# Altium schematic symbol library Analog_Switch.SchLib: 124 symbols (part 1 of 2)
Pins are listed as number, name and electrical type; pins without a type are passive.

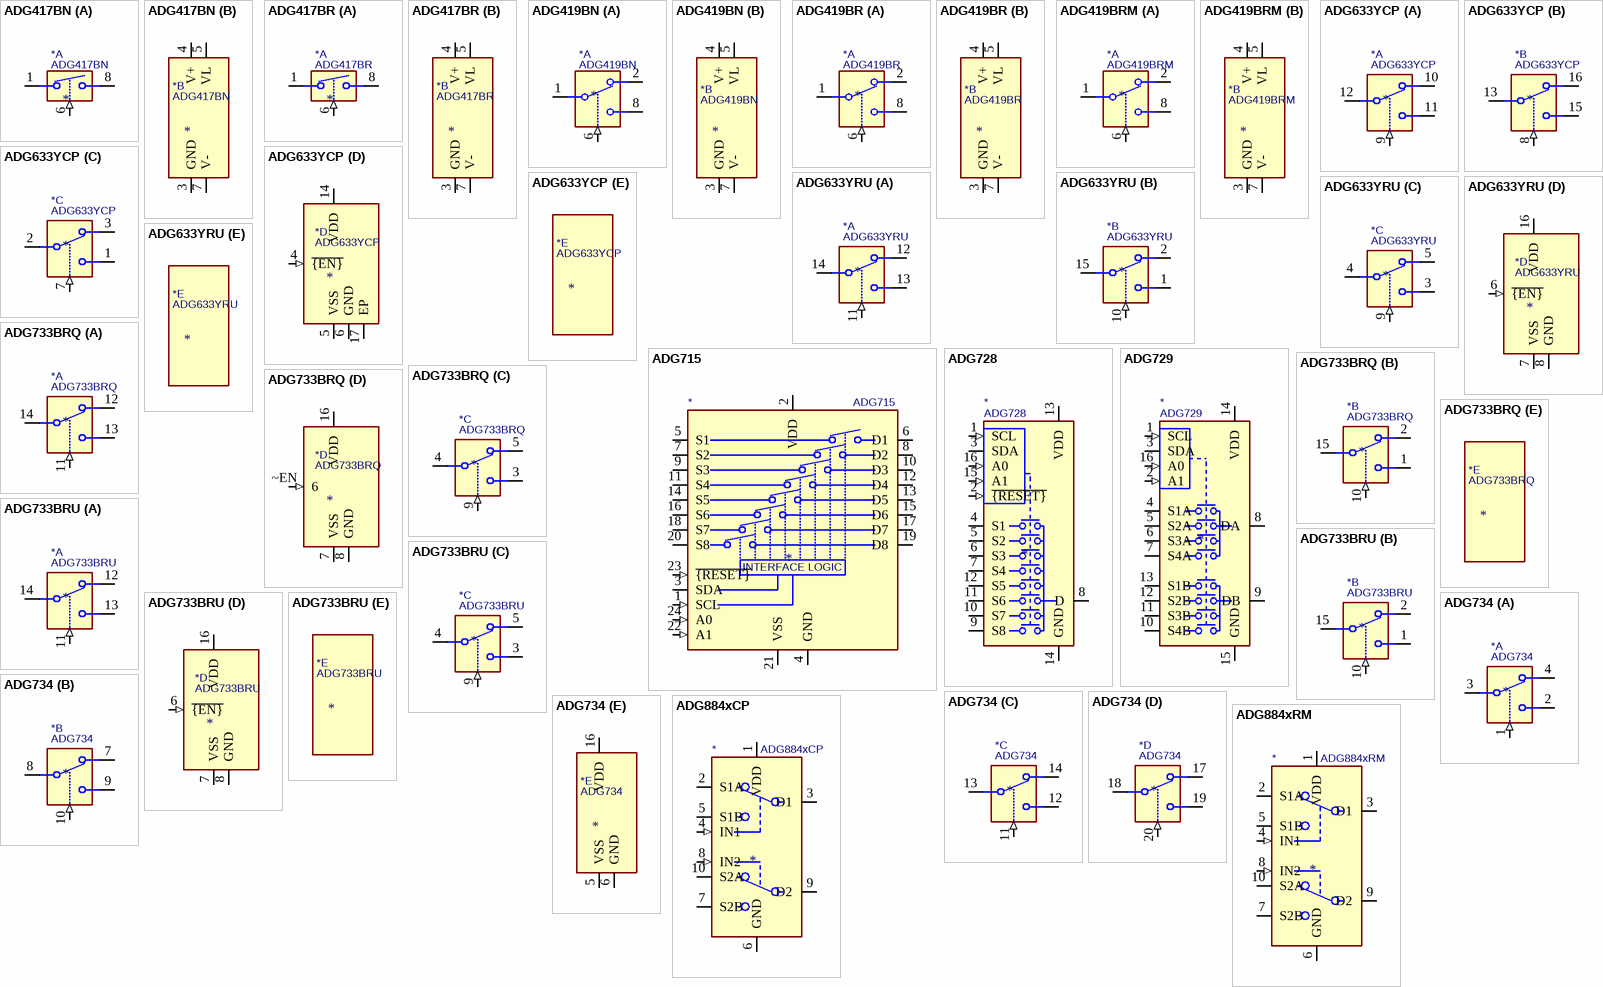
[diagram p0: symbols ADG417BN to ADG884xRM]

## ADG417BN
designator *  value ADG417BN
ki_keywords: CMOS Analog Switch; ki_description: Single SPST Monolithic LC²MOS Analog Switch, normally OFF, 25Ohm Ron, DIP-8; ki_fp_filters: DIP*W7.62mm*; Footprint: Package_DIP:DIP-8_W7.62mm; Supplier: https://www.analog.com/media/en/technical-documentation/data-sheets/ADG417.pdf
footprint DIP-8_W7.62mm
part A pins: 1, 6 (in), 8
part B pins: 2 NC (in) hidden, 3 GND (power), 4 V+ (power), 5 VL (power), 7 V- (power)

## ADG417BR
designator *  value ADG417BR
ki_keywords: CMOS Analog Switch; ki_description: Single SPST Monolithic LC²MOS Analog Switch, normally OFF, 25Ohm Ron, SOIC-8; ki_fp_filters: SOIC*3.9x4.9mm*P1.27mm*; Footprint: Package_SO:SOIC-8_3.9x4.9mm_P1.27mm; Supplier: https://www.analog.com/media/en/technical-documentation/data-sheets/ADG417.pdf
footprint SOIC-8_3.9x4.9mm_P1.27mm
part A pins: 1, 6 (in), 8
part B pins: 2 NC (in) hidden, 3 GND (power), 4 V+ (power), 5 VL (power), 7 V- (power)

## ADG419BN
designator *  value ADG419BN
ki_keywords: CMOS Analog Switch; ki_description: Single SPDT Monolithic LC²MOS Analog Switch, 25Ohm Ron, DIP-8; ki_fp_filters: DIP*W7.62mm*; Footprint: Package_DIP:DIP-8_W7.62mm; Supplier: https://www.analog.com/media/en/technical-documentation/data-sheets/ADG419.pdf
footprint DIP-8_W7.62mm
part A pins: 1, 2, 6 (in), 8
part B pins: 3 GND (power), 4 V+ (power), 5 VL (power), 7 V- (power)

## ADG419BR
designator *  value ADG419BR
ki_keywords: CMOS Analog Switch; ki_description: Single SPDT Monolithic LC²MOS Analog Switch, 25Ohm Ron, SOIC-8; ki_fp_filters: SOIC*3.9x4.9mm*P1.27mm*; Footprint: Package_SO:SOIC-8_3.9x4.9mm_P1.27mm; Supplier: https://www.analog.com/media/en/technical-documentation/data-sheets/ADG419.pdf
footprint SOIC-8_3.9x4.9mm_P1.27mm
part A pins: 1, 2, 6 (in), 8
part B pins: 3 GND (power), 4 V+ (power), 5 VL (power), 7 V- (power)

## ADG419BRM
designator *  value ADG419BRM
ki_keywords: CMOS Analog Switch; ki_description: Single SPDT Monolithic LC²MOS Analog Switch, 25Ohm Ron, MSOP-8; ki_fp_filters: MSOP*3x3mm*P0.65mm*; Footprint: Package_SO:MSOP-8_3x3mm_P0.65mm; Supplier: https://www.analog.com/media/en/technical-documentation/data-sheets/ADG419.pdf
footprint MSOP-8_3x3mm_P0.65mm
part A pins: 1, 2, 6 (in), 8
part B pins: 3 GND (power), 4 V+ (power), 5 VL (power), 7 V- (power)

## ADG633YCP
designator *  value ADG633YCP
ki_keywords: CMOS Analog Switch; ki_description: Triple SPDT CMOS Analog Switch, 52Ohm Ron, LFCSP-16; ki_fp_filters: LFCSP*4x4mm*P0.65mm*EP2.1x2.1mm*; Footprint: Package_CSP:LFCSP-16-1EP_4x4mm_P0.65mm_EP2.1x2.1mm
footprint LFCSP-16-1EP_4x4mm_P0.65mm_EP2.1x2.1mm
part A pins: 9 (in), 10, 11, 12
part B pins: 8 (in), 13, 15, 16
part C pins: 1, 2, 3, 7 (in)
part D pins: 4 ~{{EN}} (in), 5 VSS (power), 6 GND (power), 14 VDD (power), 17 EP (power)

## ADG633YRU
designator *  value ADG633YRU
ki_keywords: CMOS Analog Switch; ki_description: Triple SPDT CMOS Analog Switch, 52Ohm Ron, TSSOP-16; ki_fp_filters: TSSOP*4.4x6.5mm*P0.65mm*; Footprint: Package_SO:TSSOP-20_4.4x6.5mm_P0.65mm; Supplier: https://www.analog.com/media/en/technical-documentation/data-sheets/ADG633.pdf
footprint TSSOP-20_4.4x6.5mm_P0.65mm
part A pins: 11 (in), 12, 13, 14
part B pins: 1, 2, 10 (in), 15
part C pins: 3, 4, 5, 9 (in)
part D pins: 6 ~{{EN}} (in), 7 VSS (power), 8 GND (power), 16 VDD (power)

## ADG715
designator *  value ADG715
ki_keywords: CMOS, Switch, I2C; ki_description: CMOS, Low Voltage, Serially Controlled, Octal SPST Switch, I2C interface, TSSOP-24; ki_fp_filters: TSSOP*4.4x7.8mm*P0.65mm*; Footprint: Package_SO:TSSOP-24_4.4x7.8mm_P0.65mm; Supplier: https://www.analog.com/media/en/technical-documentation/data-sheets/ADG714_715.pdf
footprint TSSOP-24_4.4x7.8mm_P0.65mm
pins: 1 SCL (in), 2 VDD (power), 3 SDA (io), 4 GND (power), 5 S1, 6 D1, 7 S2, 8 D2, 9 S3, 10 D3, 11 S4, 12 D4, 13 D5, 14 S5, 15 D6, 16 S6, 17 D7, 18 S7, 19 D8, 20 S8, 21 VSS (power), 22 A1 (in), 23 ~{{RESET}} (in), 24 A0 (in)
text: INTERFACE LOGIC

## ADG728
designator *  value ADG728
ki_keywords: analog switch selector multiplexer TWI I2C IIC 8-to-1; ki_description: Single 8-to-1 CMOS Low Voltage 2-Wire Serially Controlled, Matrix Switches; ki_fp_filters: TSSOP*4.4x5mm*P0.65mm*; Footprint: Package_SO:TSSOP-16_4.4x5mm_P0.65mm; Supplier: https://www.analog.com/media/en/technical-documentation/data-sheets/ADG728_729.pdf
footprint TSSOP-16_4.4x5mm_P0.65mm
pins: 1 SCL (in), 2 ~{{RESET}} (in), 3 SDA (io), 4 S1 (io), 5 S2 (io), 6 S3 (io), 7 S4 (io), 8 D (io), 9 S8 (io), 10 S7 (io), 11 S6 (io), 12 S5 (io), 13 VDD (power), 14 GND (power), 15 A1 (in), 16 A0 (in)

## ADG729
designator *  value ADG729
ki_keywords: analog switch selector multiplexer TWI I2C IIC 4-to-1; ki_description: Dual 4-to-1 CMOS Low Voltage 2-Wire Serially Controlled, Matrix Switches; ki_fp_filters: TSSOP*4.4x5mm*P0.65mm*; Footprint: Package_SO:TSSOP-16_4.4x5mm_P0.65mm; Supplier: https://www.analog.com/media/en/technical-documentation/data-sheets/ADG728_729.pdf
footprint TSSOP-16_4.4x5mm_P0.65mm
pins: 1 SCL (in), 2 A1 (in), 3 SDA (io), 4 S1A (io), 5 S2A (io), 6 S3A (io), 7 S4A (io), 8 DA (io), 9 DB (io), 10 S4B (io), 11 S3B (io), 12 S2B (io), 13 S1B (io), 14 VDD (power), 15 GND (power), 16 A0 (in)

## ADG733BRQ
designator *  value ADG733BRQ
ki_keywords: CMOS Analog Switch; ki_description: Triple SPDT CMOS Analog Switch, 2.5Ohm Ron, QSOP-16; ki_fp_filters: QSOP*3.9x4.9mm*P0.635mm*; Footprint: Package_SO:QSOP-16_3.9x4.9mm_P0.635mm; Supplier: https://www.analog.com/media/en/technical-documentation/data-sheets/ADG733_734.pdf
footprint QSOP-16_3.9x4.9mm_P0.635mm
part A pins: 11 (in), 12, 13, 14
part B pins: 1, 2, 10 (in), 15
part C pins: 3, 4, 5, 9 (in)
part D pins: 7 VSS (power), 8 GND (power), 16 VDD (power), ~EN 6 (in)

## ADG733BRU
designator *  value ADG733BRU
ki_keywords: CMOS Analog Switch; ki_description: Triple SPDT CMOS Analog Switch, 2.5Ohm Ron, TSSOP-16; ki_fp_filters: TSSOP*4.4x6.5mm*P0.65mm*; Footprint: Package_SO:TSSOP-20_4.4x6.5mm_P0.65mm; Supplier: https://www.analog.com/media/en/technical-documentation/data-sheets/ADG733_734.pdf
footprint TSSOP-20_4.4x6.5mm_P0.65mm
part A pins: 11 (in), 12, 13, 14
part B pins: 1, 2, 10 (in), 15
part C pins: 3, 4, 5, 9 (in)
part D pins: 6 ~{{EN}} (in), 7 VSS (power), 8 GND (power), 16 VDD (power)

## ADG734
designator *  value ADG734
ki_keywords: CMOS Analog Switch; ki_description: Quad SPDT CMOS Analog Switch, 2.5Ohm Ron, TSSOP-20; ki_fp_filters: TSSOP*4.4x6.5mm*P0.65mm*; Footprint: Package_SO:TSSOP-20_4.4x6.5mm_P0.65mm; Supplier: https://www.analog.com/media/en/technical-documentation/data-sheets/ADG733_734.pdf
footprint TSSOP-20_4.4x6.5mm_P0.65mm
part A pins: 1 (in), 2, 3, 4
part B pins: 7, 8, 9, 10 (in)
part C pins: 11 (in), 12, 13, 14
part D pins: 17, 18, 19, 20 (in)
part E pins: 5 VSS (power), 6 GND (power), 15 NC (in) hidden, 16 VDD (power)

## ADG884xCP
designator *  value ADG884xCP
ki_keywords: analog switch; ki_description: 0.5Ω CMOS, Dual 2:1 MUX/SPDT Audio Switch, LFCSP-WD-10; ki_fp_filters: LFCSP*1EP*3x3mm*P0.5mm*; Footprint: Package_CSP:LFCSP-WD-10-1EP_3x3mm_P0.5mm_EP1.64x2.38mm; Supplier: https://www.analog.com/media/en/technical-documentation/data-sheets/ADG884.pdf
footprint LFCSP-WD-10-1EP_3x3mm_P0.5mm_EP1.64x2.38mm
pins: 1 VDD (power), 2 S1A (io), 3 D1 (io), 4 IN1 (in), 5 S1B (io), 6 GND (power), 7 S2B (io), 8 IN2 (in), 9 D2 (io), 10 S2A (io), 11 GND hidden

## ADG884xRM
designator *  value ADG884xRM
ki_keywords: analog switch; ki_description: 0.5Ω CMOS, Dual 2:1 MUX/SPDT Audio Switch, MSOP-10; ki_fp_filters: MSOP*3x3mm*P0.5mm*; Footprint: Package_SO:MSOP-10_3x3mm_P0.5mm; Supplier: https://www.analog.com/media/en/technical-documentation/data-sheets/ADG884.pdf
footprint MSOP-10_3x3mm_P0.5mm
pins: 1 VDD (power), 2 S1A (io), 3 D1 (io), 4 IN1 (in), 5 S1B (io), 6 GND (power), 7 S2B (io), 8 IN2 (in), 9 D2 (io), 10 S2A (io)

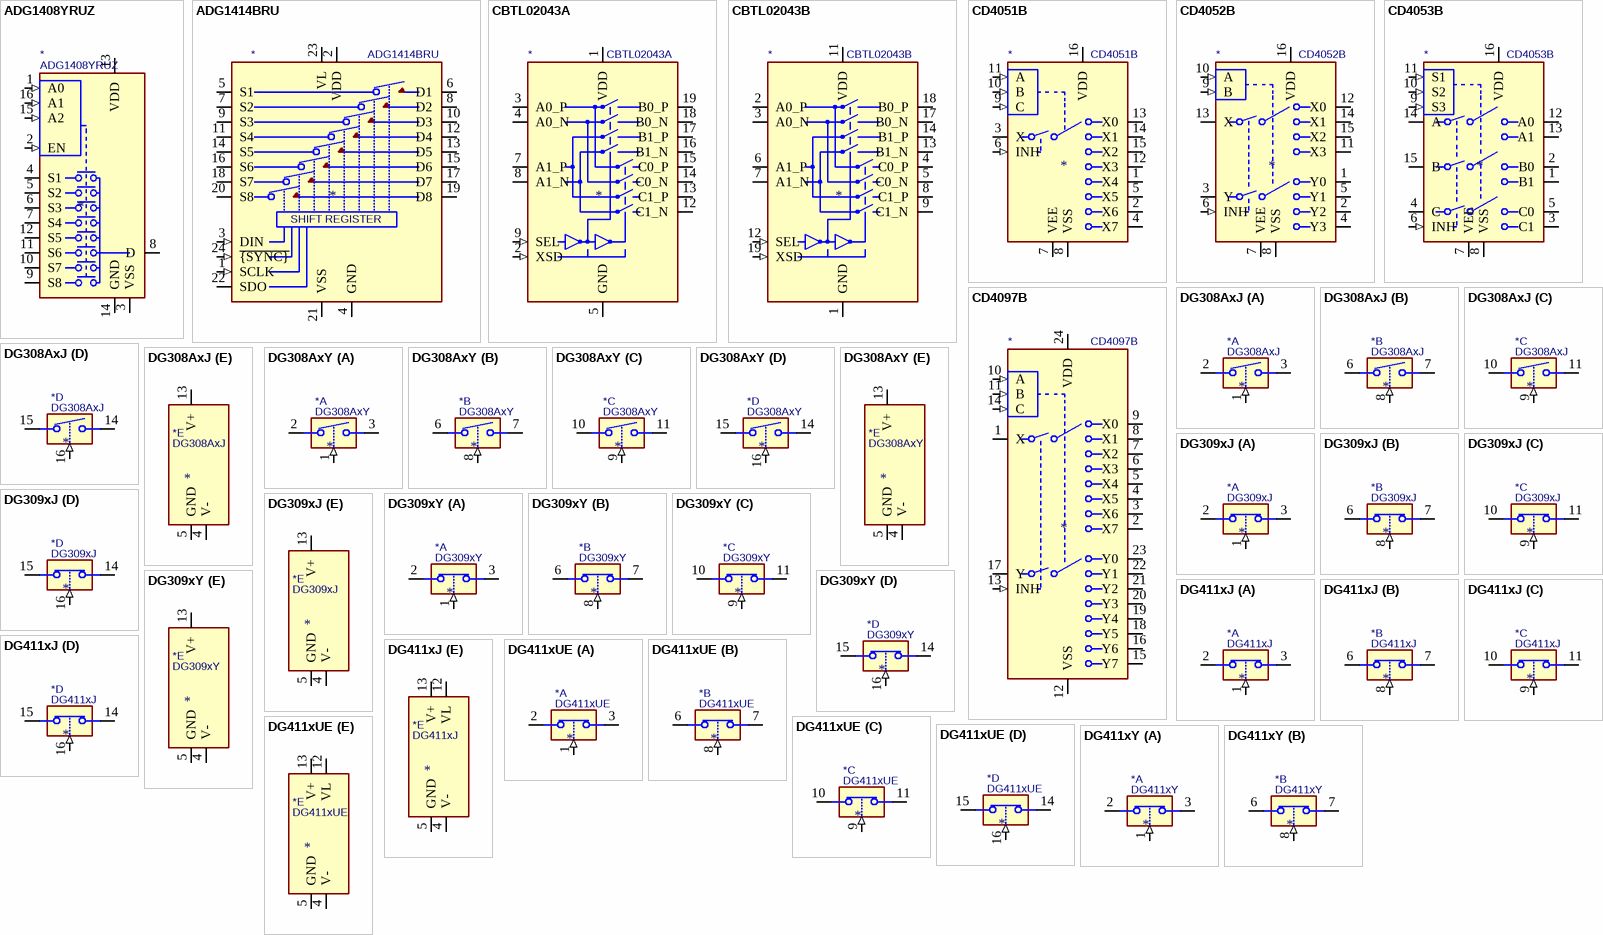
[diagram p1: symbols ADG1408YRUZ to DG411xY]

## ADG1408YRUZ
designator *  value ADG1408YRUZ
ki_keywords: analog switch  multiplexer SP8T; ki_description: 8-channel iCMOS analog multiplexer, 4.7 Ohm Ron, 60 MHz, TSSOP-16; ki_fp_filters: TSSOP*4.4x5mm*P0.65mm*; Footprint: Package_SO:TSSOP-16_4.4x5mm_P0.65mm; Supplier: https://www.analog.com/media/en/technical-documentation/data-sheets/ADG1408_1409.pdf
footprint TSSOP-16_4.4x5mm_P0.65mm
pins: 1 A0 (in), 2 EN (in), 3 VSS (power), 4 S1 (io), 5 S2 (io), 6 S3 (io), 7 S4 (io), 8 D (io), 9 S8 (io), 10 S7 (io), 11 S6 (io), 12 S5 (io), 13 VDD (power), 14 GND (power), 15 A2 (in), 16 A1 (in)

## ADG1414BRU
designator *  value ADG1414BRU
ki_keywords: SPI SPST Analog Switches; ki_description: ±15V, +12V, ±5V, 9.5 Ohm on resistance, iCMOS Serially-Controlled Octal SPST Switches, TSSOP-24; ki_fp_filters: TSSOP*4.4x7.8mm*P0.65mm*; Footprint: Package_SO:TSSOP-24_4.4x7.8mm_P0.65mm; Supplier: https://www.analog.com/media/en/technical-documentation/data-sheets/ADG1414.pdf
footprint TSSOP-24_4.4x7.8mm_P0.65mm
pins: 1 SCLK (in), 2 VDD (power), 3 DIN (in), 4 GND (power), 5 S1, 6 D1, 7 S2, 8 D2, 9 S3, 10 D3, 11 S4, 12 D4, 13 D5, 14 S5, 15 D6, 16 S6, 17 D7, 18 S7, 19 D8, 20 S8, 21 VSS (power), 22 SDO (oc), 23 VL (power), 24 ~{{SYNC}} (in)
text: SHIFT REGISTER

## CBTL02043A
designator *  value CBTL02043A
ki_keywords: Multiplexer Demultiplexer Switch Hi-Speed; ki_description: 3.3 V, 2 differential channel, 2:1 MUX/deMUX switch, 10 Gbps, WQFN-20; ki_fp_filters: WQFN*1EP*2.5x4.5mm*P0.5mm*; Footprint: Package_DFN_QFN:WQFN-20-1EP_2.5x4.5mm_P0.5mm_EP1x2.9mm; Supplier: https://www.nxp.com/docs/en/data-sheet/CBTL02043A_CBTL02043B.pdf
footprint WQFN-20-1EP_2.5x4.5mm_P0.5mm_EP1x2.9mm
pins: 1 VDD (power), 2 XSD (in), 3 A0_P, 4 A0_N, 5 GND (power), 6 VDD hidden, 7 A1_P, 8 A1_N, 9 SEL (in), 10 VDD hidden, 11 GND hidden, 12 C1_N, 13 C1_P, 14 C0_N, 15 C0_P, 16 B1_N, 17 B1_P, 18 B0_N, 19 B0_P, 20 GND hidden, 21 GND hidden

## CBTL02043B
designator *  value CBTL02043B
ki_keywords: Multiplexer Demultiplexer Switch Hi-Speed; ki_description: 3.3 V, 2 differential channel, 2:1 MUX/deMUX switch, 10 Gbps, WQFN-20; ki_fp_filters: WQFN*1EP*2.5x4.5mm*P0.5mm*; Footprint: Package_DFN_QFN:WQFN-20-1EP_2.5x4.5mm_P0.5mm_EP1x2.9mm; Supplier: https://www.nxp.com/docs/en/data-sheet/CBTL02043A_CBTL02043B.pdf
footprint WQFN-20-1EP_2.5x4.5mm_P0.5mm_EP1x2.9mm
pins: 1 GND (power), 2 A0_P, 3 A0_N, 4 C0_P, 5 C0_N, 6 A1_P, 7 A1_N, 8 C1_P, 9 C1_N, 10 GND hidden, 11 VDD (power), 12 SEL (in), 13 B1_N, 14 B1_P, 15 GND hidden, 16 VDD hidden, 17 B0_N, 18 B0_P, 19 XSD (in), 20 VDD hidden, 21 GND hidden

## CD4051B
designator *  value CD4051B
ki_keywords: analog switch selector multiplexer; ki_description: CMOS single 8-channel analog multiplexer demultiplexer, TSSOP-16/DIP-16/SOIC-16; ki_fp_filters: TSSOP*4.4x5mm*P0.65mm* DIP*W7.62* SOIC*3.9x9.9mm*P1.27mm* SO*5.3x10.2mm*P1.27mm*; Supplier: http://www.ti.com/lit/ds/symlink/cd4052b.pdf
pins: 1 X4 (io), 2 X6 (io), 3 X (io), 4 X7 (io), 5 X5 (io), 6 INH (in), 7 VEE (power), 8 VSS (power), 9 C (in), 10 B (in), 11 A (in), 12 X3 (io), 13 X0 (io), 14 X1 (io), 15 X2 (io), 16 VDD (power)

## CD4052B
designator *  value CD4052B
ki_keywords: analog switch selector multiplexer; ki_description: CMOS double 4-channel analog multiplexer/demultiplexer, TSSOP-16/DIP-16/SOIC-16; ki_fp_filters: TSSOP*4.4x5mm*P0.65mm* DIP*W7.62* SOIC*3.9x9.9mm*P1.27mm* SO*5.3x10.2mm*P1.27mm*; Supplier: http://www.ti.com/lit/ds/symlink/cd4052b.pdf
pins: 1 Y0 (io), 2 Y2 (io), 3 Y (io), 4 Y3 (io), 5 Y1 (io), 6 INH (in), 7 VEE (power), 8 VSS (power), 9 B (in), 10 A (in), 11 X3 (io), 12 X0 (io), 13 X (io), 14 X1 (io), 15 X2 (io), 16 VDD (power)

## CD4053B
designator *  value CD4053B
ki_keywords: analog switch selector multiplexer; ki_description: CMOS triple 2-channel analog multiplexer/demultiplexer, TSSOP-16/DIP-16/SOIC-16; ki_fp_filters: TSSOP*4.4x5mm*P0.65mm* DIP*W7.62* SOIC*3.9x9.9mm*P1.27mm* SO*5.3x10.2mm*P1.27mm*; Supplier: http://www.ti.com/lit/ds/symlink/cd4052b.pdf
pins: 1 B1 (io), 2 B0 (io), 3 C1 (io), 4 C (io), 5 C0 (io), 6 INH (in), 7 VEE (power), 8 VSS (power), 9 S3 (in), 10 S2 (in), 11 S1 (in), 12 A0 (io), 13 A1 (io), 14 A (io), 15 B (io), 16 VDD (power)

## CD4097B
designator *  value CD4097B
ki_keywords: analog switch selector multiplexer; ki_description: CMOS double 8-channel analog multiplexer/demultiplexer, TSSOP-24/DIP-24/SOIC-24; ki_fp_filters: TSSOP*4.4x7.8mm*P0.65mm* SOIC*7.5*15.4*1.27mm* SO*5.3x15.0mm*P1.27mm* DIP*15.24mm*; Supplier: http://www.ti.com/lit/ds/symlink/cd4097b.pdf
pins: 1 X (io), 2 X7 (io), 3 X6 (io), 4 X5 (io), 5 X4 (io), 6 X3 (io), 7 X2 (io), 8 X1 (io), 9 X0 (io), 10 A (in), 11 B (in), 12 VSS (power), 13 INH (in), 14 C (in), 15 Y7 (io), 16 Y6 (io), 17 Y (io), 18 Y5 (io), 19 Y4 (io), 20 Y3 (io), 21 Y2 (io), 22 Y1 (io), 23 Y0 (io), 24 VDD (power)

## DG308AxJ
designator *  value DG308AxJ
ki_keywords: CMOS Analog Switch; ki_description: Quad SPST Analog Switches, normally OFF, 60Ohm Ron, DIP-16; ki_fp_filters: DIP*W7.62mm*; Footprint: Package_DIP:DIP-16_W7.62mm; Supplier: http://pdf.datasheetcatalog.com/datasheets/70/494502_DS.pdf
footprint DIP-16_W7.62mm
part A pins: 1 (in), 2, 3
part B pins: 6, 7, 8 (in)
part C pins: 9 (in), 10, 11
part D pins: 14, 15, 16 (in)
part E pins: 4 V- (power), 5 GND (power), 12 NC (in) hidden, 13 V+ (power)

## DG308AxY
designator *  value DG308AxY
ki_keywords: CMOS Analog Switch; ki_description: Quad SPST Analog Switches, normally OFF, 60Ohm Ron, SOIC-16; ki_fp_filters: SOIC*3.9x9.9mm*P1.27mm*; Footprint: Package_SO:SOIC-16_3.9x9.9mm_P1.27mm; Supplier: http://pdf.datasheetcatalog.com/datasheets/70/494502_DS.pdf
footprint SOIC-16_3.9x9.9mm_P1.27mm
part A pins: 1 (in), 2, 3
part B pins: 6, 7, 8 (in)
part C pins: 9 (in), 10, 11
part D pins: 14, 15, 16 (in)
part E pins: 4 V- (power), 5 GND (power), 12 NC (in) hidden, 13 V+ (power)

## DG309xJ
designator *  value DG309xJ
ki_keywords: CMOS Analog Switch; ki_description: Quad SPST Analog Switches, normally ON, 60Ohm Ron, DIP-16; ki_fp_filters: DIP*W7.62mm*; Footprint: Package_DIP:DIP-16_W7.62mm; Supplier: http://pdf.datasheetcatalog.com/datasheets/70/494502_DS.pdf
footprint DIP-16_W7.62mm
part A pins: 1 (in), 2, 3
part B pins: 6, 7, 8 (in)
part C pins: 9 (in), 10, 11
part D pins: 14, 15, 16 (in)
part E pins: 4 V- (power), 5 GND (power), 12 NC (in) hidden, 13 V+ (power)

## DG309xY
designator *  value DG309xY
ki_keywords: CMOS Analog Switch; ki_description: Quad SPST Analog Switches, normally ON, 60Ohm Ron, SOIC-16; ki_fp_filters: SOIC*3.9x9.9mm*P1.27mm*; Footprint: Package_SO:SOIC-16_3.9x9.9mm_P1.27mm; Supplier: http://pdf.datasheetcatalog.com/datasheets/70/494502_DS.pdf
footprint SOIC-16_3.9x9.9mm_P1.27mm
part A pins: 1 (in), 2, 3
part B pins: 6, 7, 8 (in)
part C pins: 9 (in), 10, 11
part D pins: 14, 15, 16 (in)
part E pins: 4 V- (power), 5 GND (power), 12 NC (in) hidden, 13 V+ (power)

## DG411xJ
designator *  value DG411xJ
ki_keywords: CMOS Analog Switch; ki_description: Quad SPST Monolithic CMOS Analog Switches, normally ON, 17Ohm Ron, DIP-16; ki_fp_filters: DIP*W7.62mm*; Footprint: Package_DIP:DIP-16_W7.62mm; Supplier: https://datasheets.maximintegrated.com/en/ds/DG411-DG413.pdf
footprint DIP-16_W7.62mm
part A pins: 1 (in), 2, 3
part B pins: 6, 7, 8 (in)
part C pins: 9 (in), 10, 11
part D pins: 14, 15, 16 (in)
part E pins: 4 V- (power), 5 GND (power), 12 VL (power), 13 V+ (power)

## DG411xUE
designator *  value DG411xUE
ki_keywords: CMOS Analog Switch; ki_description: Quad SPST Monolithic CMOS Analog Switches, normally ON, 17Ohm Ron, TSSOP-16; ki_fp_filters: TSSOP*4.4x5mm*P0.65mm*; Footprint: Package_SO:TSSOP-16_4.4x5mm_P0.65mm; Supplier: https://datasheets.maximintegrated.com/en/ds/DG411-DG413.pdf
footprint TSSOP-16_4.4x5mm_P0.65mm
part A pins: 1 (in), 2, 3
part B pins: 6, 7, 8 (in)
part C pins: 9 (in), 10, 11
part D pins: 14, 15, 16 (in)
part E pins: 4 V- (power), 5 GND (power), 12 VL (power), 13 V+ (power)

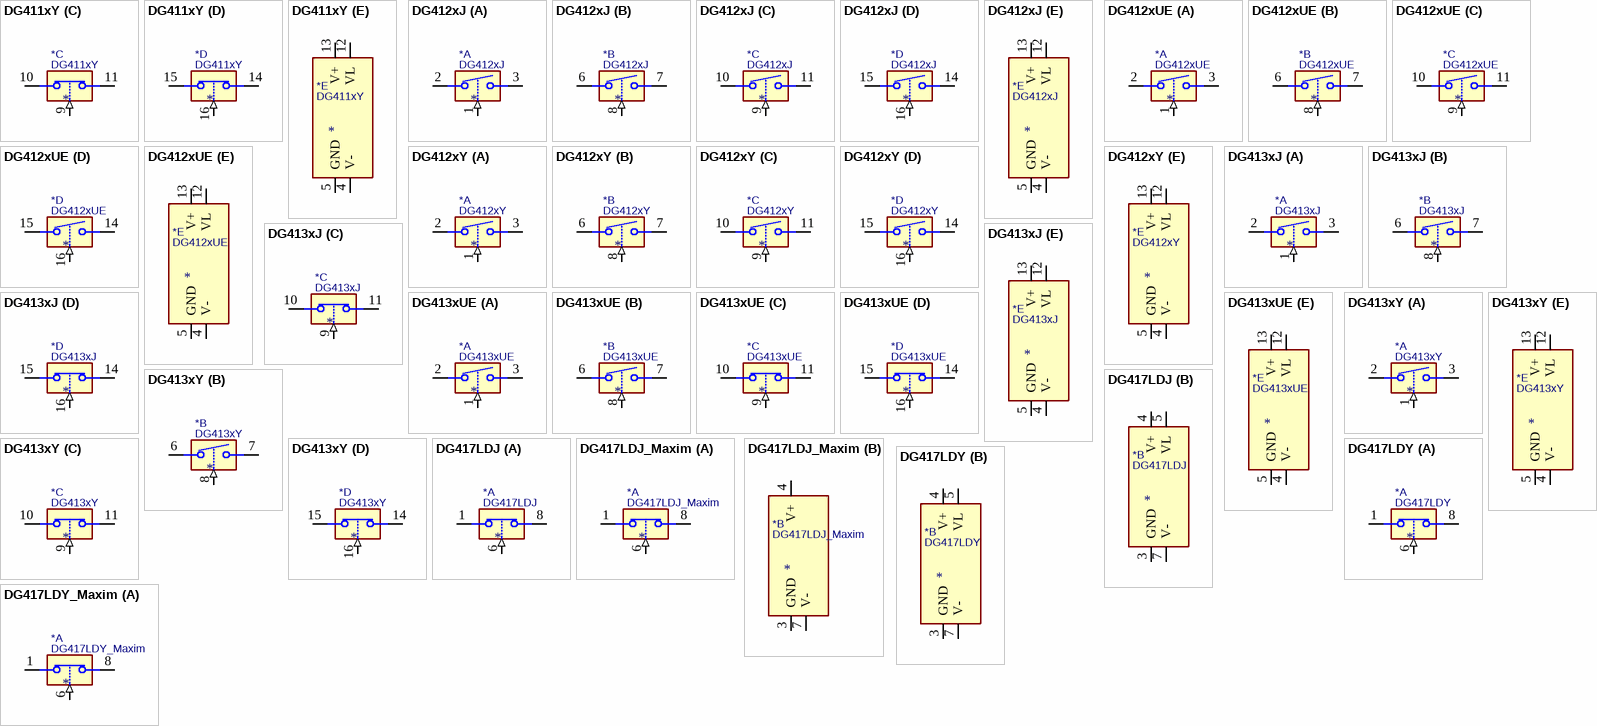
[diagram p2: symbols DG411xY to DG417LDY_Maxim]

## DG411xY
designator *  value DG411xY
ki_keywords: CMOS Analog Switch; ki_description: Quad SPST Monolithic CMOS Analog Switches, normally ON, 17Ohm Ron, SOIC-16; ki_fp_filters: SOIC*3.9x9.9mm*P1.27mm*; Footprint: Package_SO:SOIC-16_3.9x9.9mm_P1.27mm; Supplier: https://datasheets.maximintegrated.com/en/ds/DG411-DG413.pdf
footprint SOIC-16_3.9x9.9mm_P1.27mm
part A pins: 1 (in), 2, 3
part B pins: 6, 7, 8 (in)
part C pins: 9 (in), 10, 11
part D pins: 14, 15, 16 (in)
part E pins: 4 V- (power), 5 GND (power), 12 VL (power), 13 V+ (power)

## DG412xJ
designator *  value DG412xJ
ki_keywords: CMOS Analog Switch; ki_description: Quad SPST Monolithic CMOS Analog Switches, normally OFF, 17Ohm Ron, DIP-16; ki_fp_filters: DIP*W7.62mm*; Footprint: Package_DIP:DIP-16_W7.62mm; Supplier: https://datasheets.maximintegrated.com/en/ds/DG411-DG413.pdf
footprint DIP-16_W7.62mm
part A pins: 1 (in), 2, 3
part B pins: 6, 7, 8 (in)
part C pins: 9 (in), 10, 11
part D pins: 14, 15, 16 (in)
part E pins: 4 V- (power), 5 GND (power), 12 VL (power), 13 V+ (power)

## DG412xUE
designator *  value DG412xUE
ki_keywords: CMOS Analog Switch; ki_description: Quad SPST Monolithic CMOS Analog Switches, normally OFF, 17Ohm Ron, TSSOP-16; ki_fp_filters: TSSOP*4.4x5mm*P0.65mm*; Footprint: Package_SO:TSSOP-16_4.4x5mm_P0.65mm; Supplier: https://datasheets.maximintegrated.com/en/ds/DG411-DG413.pdf
footprint TSSOP-16_4.4x5mm_P0.65mm
part A pins: 1 (in), 2, 3
part B pins: 6, 7, 8 (in)
part C pins: 9 (in), 10, 11
part D pins: 14, 15, 16 (in)
part E pins: 4 V- (power), 5 GND (power), 12 VL (power), 13 V+ (power)

## DG412xY
designator *  value DG412xY
ki_keywords: CMOS Analog Switch; ki_description: Quad SPST Monolithic CMOS Analog Switches, normally OFF, 17Ohm Ron, SOIC-16; ki_fp_filters: SOIC*3.9x9.9mm*P1.27mm*; Footprint: Package_SO:SOIC-16_3.9x9.9mm_P1.27mm; Supplier: https://datasheets.maximintegrated.com/en/ds/DG411-DG413.pdf
footprint SOIC-16_3.9x9.9mm_P1.27mm
part A pins: 1 (in), 2, 3
part B pins: 6, 7, 8 (in)
part C pins: 9 (in), 10, 11
part D pins: 14, 15, 16 (in)
part E pins: 4 V- (power), 5 GND (power), 12 VL (power), 13 V+ (power)

## DG413xJ
designator *  value DG413xJ
ki_keywords: CMOS Analog Switch; ki_description: Quad SPST Monolithic CMOS Analog Switches, normally 2xON + 2xOFF, 17Ohm Ron, DIP-16; ki_fp_filters: DIP*W7.62mm*; Footprint: Package_DIP:DIP-16_W7.62mm; Supplier: https://datasheets.maximintegrated.com/en/ds/DG411-DG413.pdf
footprint DIP-16_W7.62mm
part A pins: 1 (in), 2, 3
part B pins: 6, 7, 8 (in)
part C pins: 9 (in), 10, 11
part D pins: 14, 15, 16 (in)
part E pins: 4 V- (power), 5 GND (power), 12 VL (power), 13 V+ (power)

## DG413xUE
designator *  value DG413xUE
ki_keywords: CMOS Analog Switch; ki_description: Quad SPST Monolithic CMOS Analog Switches, normally 2xON + 2xOFF, 17Ohm Ron, TSSOP-16; ki_fp_filters: TSSOP*4.4x5mm*P0.65mm*; Footprint: Package_SO:TSSOP-16_4.4x5mm_P0.65mm; Supplier: https://datasheets.maximintegrated.com/en/ds/DG411-DG413.pdf
footprint TSSOP-16_4.4x5mm_P0.65mm
part A pins: 1 (in), 2, 3
part B pins: 6, 7, 8 (in)
part C pins: 9 (in), 10, 11
part D pins: 14, 15, 16 (in)
part E pins: 4 V- (power), 5 GND (power), 12 VL (power), 13 V+ (power)

## DG413xY
designator *  value DG413xY
ki_keywords: CMOS Analog Switch; ki_description: Quad SPST Monolithic CMOS Analog Switches, normally 2xON + 2xOFF, 17Ohm Ron, SOIC-16; ki_fp_filters: SOIC*3.9x9.9mm*P1.27mm*; Footprint: Package_SO:SOIC-16_3.9x9.9mm_P1.27mm; Supplier: https://datasheets.maximintegrated.com/en/ds/DG411-DG413.pdf
footprint SOIC-16_3.9x9.9mm_P1.27mm
part A pins: 1 (in), 2, 3
part B pins: 6, 7, 8 (in)
part C pins: 9 (in), 10, 11
part D pins: 14, 15, 16 (in)
part E pins: 4 V- (power), 5 GND (power), 12 VL (power), 13 V+ (power)

## DG417LDJ
designator *  value DG417LDJ
ki_keywords: CMOS Analog Switch; ki_description: Single SPST 3V Logic Compatible CMOS Analog Switch, normally ON, 35Ohm Ron, with Vlogic, DIP-8; ki_fp_filters: DIP*W7.62mm*; Footprint: Package_DIP:DIP-8_W7.62mm; Supplier: https://datasheets.maximintegrated.com/en/ds/DG417L-DG419L.pdf
footprint DIP-8_W7.62mm
part A pins: 1, 6 (in), 8
part B pins: 2 NC (in) hidden, 3 GND (power), 4 V+ (power), 5 VL (power), 7 V- (power)

## DG417LDJ_Maxim
designator *  value DG417LDJ_Maxim
ki_keywords: CMOS Analog Switch; ki_description: Single SPST 3V Logic Compatible CMOS Analog Switch, normally ON, 35Ohm Ron, Maxim-variant without Vlogic, DIP-8; ki_fp_filters: DIP*W7.62mm*; Footprint: Package_DIP:DIP-8_W7.62mm; Supplier: https://datasheets.maximintegrated.com/en/ds/DG417L-DG419L.pdf
footprint DIP-8_W7.62mm
part A pins: 1, 6 (in), 8
part B pins: 2 NC (in) hidden, 3 GND (power), 4 V+ (power), 5 NC (in) hidden, 7 V- (power)

## DG417LDY
designator *  value DG417LDY
ki_keywords: CMOS Analog Switch; ki_description: Single SPST 3V Logic Compatible CMOS Analog Switch, normally ON, 20Ohm Ron, with Vlogic, SOIC-8; ki_fp_filters: SOIC*3.9x4.9mm*P1.27mm*; Footprint: Package_SO:SOIC-8_3.9x4.9mm_P1.27mm; Supplier: https://datasheets.maximintegrated.com/en/ds/DG417-DG419.pdf
footprint SOIC-8_3.9x4.9mm_P1.27mm
part A pins: 1, 6 (in), 8
part B pins: 2 NC (in) hidden, 3 GND (power), 4 V+ (power), 5 VL (power), 7 V- (power)

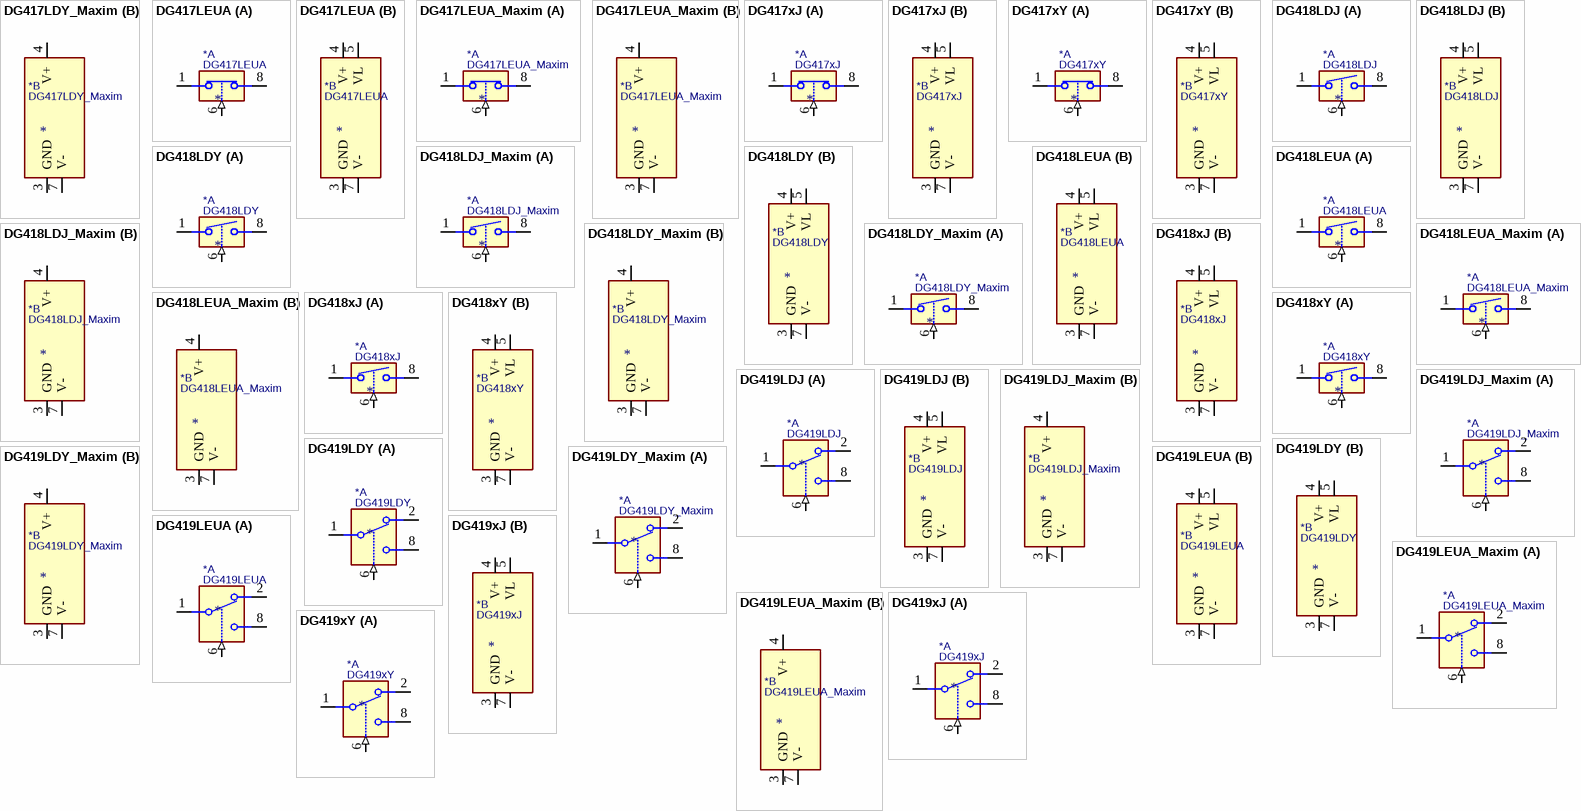
[diagram p3: symbols DG417LDY_Maxim to DG419xY]

## DG417LDY_Maxim
designator *  value DG417LDY_Maxim
ki_keywords: CMOS Analog Switch; ki_description: Single SPST 3V Logic Compatible CMOS Analog Switch, normally ON, 20Ohm Ron, Maxim-variant without Vlogic, SOIC-8; ki_fp_filters: SOIC*3.9x4.9mm*P1.27mm*; Footprint: Package_SO:SOIC-8_3.9x4.9mm_P1.27mm; Supplier: https://datasheets.maximintegrated.com/en/ds/DG417-DG419.pdf
footprint SOIC-8_3.9x4.9mm_P1.27mm
part A pins: 1, 6 (in), 8
part B pins: 2 NC (in) hidden, 3 GND (power), 4 V+ (power), 5 NC (in) hidden, 7 V- (power)

## DG417LEUA
designator *  value DG417LEUA
ki_keywords: CMOS Analog Switch; ki_description: Single SPST 3V Logic Compatible CMOS Analog Switch, normally ON, 20Ohm Ron, with Vlogic, MSOP-8; ki_fp_filters: MSOP*3x3mm*P0.65mm*; Footprint: Package_SO:MSOP-8_3x3mm_P0.65mm; Supplier: https://datasheets.maximintegrated.com/en/ds/DG417-DG419.pdf
footprint MSOP-8_3x3mm_P0.65mm
part A pins: 1, 6 (in), 8
part B pins: 2 NC (in) hidden, 3 GND (power), 4 V+ (power), 5 VL (power), 7 V- (power)

## DG417LEUA_Maxim
designator *  value DG417LEUA_Maxim
ki_keywords: CMOS Analog Switch; ki_description: Single SPST 3V Logic Compatible CMOS Analog Switch, normally ON, 20Ohm Ron, Maxim-variant without Vlogic, MSOP-8; ki_fp_filters: MSOP*3x3mm*P0.65mm*; Footprint: Package_SO:MSOP-8_3x3mm_P0.65mm; Supplier: https://datasheets.maximintegrated.com/en/ds/DG417-DG419.pdf
footprint MSOP-8_3x3mm_P0.65mm
part A pins: 1, 6 (in), 8
part B pins: 2 NC (in) hidden, 3 GND (power), 4 V+ (power), 5 NC (in) hidden, 7 V- (power)

## DG417xJ
designator *  value DG417xJ
ki_keywords: CMOS Analog Switch; ki_description: Single SPST Monolithic CMOS Analog Switch, normally ON, 20Ohm Ron, DIP-8; ki_fp_filters: DIP*W7.62mm*; Footprint: Package_DIP:DIP-8_W7.62mm; Supplier: https://datasheets.maximintegrated.com/en/ds/DG417-DG419.pdf
footprint DIP-8_W7.62mm
part A pins: 1, 6 (in), 8
part B pins: 2 NC (in) hidden, 3 GND (power), 4 V+ (power), 5 VL (power), 7 V- (power)

## DG417xY
designator *  value DG417xY
ki_keywords: CMOS Analog Switch; ki_description: Single SPST Monolithic CMOS Analog Switch, normally ON, 20Ohm Ron, SOIC-8; ki_fp_filters: SOIC*3.9x4.9mm*P1.27mm*; Footprint: Package_SO:SOIC-8_3.9x4.9mm_P1.27mm; Supplier: https://datasheets.maximintegrated.com/en/ds/DG417-DG419.pdf
footprint SOIC-8_3.9x4.9mm_P1.27mm
part A pins: 1, 6 (in), 8
part B pins: 2 NC (in) hidden, 3 GND (power), 4 V+ (power), 5 VL (power), 7 V- (power)

## DG418LDJ
designator *  value DG418LDJ
ki_keywords: CMOS Analog Switch; ki_description: Single SPST 3V Logic Compatible CMOS Analog Switch, normally OFF, 35Ohm Ron, with Vlogic, DIP-8; ki_fp_filters: DIP*W7.62mm*; Footprint: Package_DIP:DIP-8_W7.62mm; Supplier: https://datasheets.maximintegrated.com/en/ds/DG417-DG419.pdf
footprint DIP-8_W7.62mm
part A pins: 1, 6 (in), 8
part B pins: 2 NC (in) hidden, 3 GND (power), 4 V+ (power), 5 VL (power), 7 V- (power)

## DG418LDJ_Maxim
designator *  value DG418LDJ_Maxim
ki_keywords: CMOS Analog Switch; ki_description: Single SPST 3V Logic Compatible CMOS Analog Switch, normally OFF, 35Ohm Ron, Maxim-variant without Vlogic, DIP-8; ki_fp_filters: DIP*W7.62mm*; Footprint: Package_DIP:DIP-8_W7.62mm; Supplier: https://datasheets.maximintegrated.com/en/ds/DG417-DG419.pdf
footprint DIP-8_W7.62mm
part A pins: 1, 6 (in), 8
part B pins: 2 NC (in) hidden, 3 GND (power), 4 V+ (power), 5 NC (in) hidden, 7 V- (power)

## DG418LDY
designator *  value DG418LDY
ki_keywords: CMOS Analog Switch; ki_description: Single SPST 3V Logic Compatible CMOS Analog Switch, normally OFF, 35Ohm Ron, with Vlogic, SOIC-8; ki_fp_filters: SOIC*3.9x4.9mm*P1.27mm*; Footprint: Package_SO:SOIC-8_3.9x4.9mm_P1.27mm; Supplier: https://datasheets.maximintegrated.com/en/ds/DG417-DG419.pdf
footprint SOIC-8_3.9x4.9mm_P1.27mm
part A pins: 1, 6 (in), 8
part B pins: 2 NC (in) hidden, 3 GND (power), 4 V+ (power), 5 VL (power), 7 V- (power)

## DG418LDY_Maxim
designator *  value DG418LDY_Maxim
ki_keywords: CMOS Analog Switch; ki_description: Single SPST 3V Logic Compatible CMOS Analog Switch, normally OFF, 35Ohm Ron, Maxim-variant without Vlogic, SOIC-8; ki_fp_filters: SOIC*3.9x4.9mm*P1.27mm*; Footprint: Package_SO:SOIC-8_3.9x4.9mm_P1.27mm; Supplier: https://datasheets.maximintegrated.com/en/ds/DG417-DG419.pdf
footprint SOIC-8_3.9x4.9mm_P1.27mm
part A pins: 1, 6 (in), 8
part B pins: 2 NC (in) hidden, 3 GND (power), 4 V+ (power), 5 NC (in) hidden, 7 V- (power)

## DG418LEUA
designator *  value DG418LEUA
ki_keywords: CMOS Analog Switch; ki_description: Single SPST 3V Logic Compatible CMOS Analog Switch, normally OFF, 35Ohm Ron, with Vlogic, MSOP-8; ki_fp_filters: MSOP*3x3mm*P0.65mm*; Footprint: Package_SO:MSOP-8_3x3mm_P0.65mm; Supplier: https://datasheets.maximintegrated.com/en/ds/DG417-DG419.pdf
footprint MSOP-8_3x3mm_P0.65mm
part A pins: 1, 6 (in), 8
part B pins: 2 NC (in) hidden, 3 GND (power), 4 V+ (power), 5 VL (power), 7 V- (power)

## DG418LEUA_Maxim
designator *  value DG418LEUA_Maxim
ki_keywords: CMOS Analog Switch; ki_description: Single SPST 3V Logic Compatible CMOS Analog Switch, normally OFF, 35Ohm Ron, Maxim-variant without Vlogic, MSOP-8; ki_fp_filters: MSOP*3x3mm*P0.65mm*; Footprint: Package_SO:MSOP-8_3x3mm_P0.65mm; Supplier: https://datasheets.maximintegrated.com/en/ds/DG417-DG419.pdf
footprint MSOP-8_3x3mm_P0.65mm
part A pins: 1, 6 (in), 8
part B pins: 2 NC (in) hidden, 3 GND (power), 4 V+ (power), 5 NC (in) hidden, 7 V- (power)

## DG418xJ
designator *  value DG418xJ
ki_keywords: CMOS Analog Switch; ki_description: Single SPST Monolithic CMOS Analog Switch, normally OFF, 20Ohm Ron, DIP-8; ki_fp_filters: DIP*W7.62mm*; Footprint: Package_DIP:DIP-8_W7.62mm; Supplier: https://datasheets.maximintegrated.com/en/ds/DG417-DG419.pdf
footprint DIP-8_W7.62mm
part A pins: 1, 6 (in), 8
part B pins: 2 NC (in) hidden, 3 GND (power), 4 V+ (power), 5 VL (power), 7 V- (power)

## DG418xY
designator *  value DG418xY
ki_keywords: CMOS Analog Switch; ki_description: Single SPST Monolithic CMOS Analog Switch, normally OFF, 20Ohm Ron, SOIC-8; ki_fp_filters: SOIC*3.9x4.9mm*P1.27mm*; Footprint: Package_SO:SOIC-8_3.9x4.9mm_P1.27mm; Supplier: https://datasheets.maximintegrated.com/en/ds/DG417-DG419.pdf
footprint SOIC-8_3.9x4.9mm_P1.27mm
part A pins: 1, 6 (in), 8
part B pins: 2 NC (in) hidden, 3 GND (power), 4 V+ (power), 5 VL (power), 7 V- (power)

## DG419LDJ
designator *  value DG419LDJ
ki_keywords: CMOS Analog Switch; ki_description: Single SPDT 3V Logic Compatible CMOS Analog Switch, 35Ohm Ron, with Vlogic, DIP-8; ki_fp_filters: DIP*W7.62mm*; Footprint: Package_DIP:DIP-8_W7.62mm; Supplier: https://datasheets.maximintegrated.com/en/ds/DG417-DG419.pdf
footprint DIP-8_W7.62mm
part A pins: 1, 2, 6 (in), 8
part B pins: 3 GND (power), 4 V+ (power), 5 VL (power), 7 V- (power)

## DG419LDJ_Maxim
designator *  value DG419LDJ_Maxim
ki_keywords: CMOS Analog Switch; ki_description: Single SPDT 3V Logic Compatible CMOS Analog Switch, 35Ohm Ron, Maxim-variant without Vlogic, DIP-8; ki_fp_filters: DIP*W7.62mm*; Footprint: Package_DIP:DIP-8_W7.62mm; Supplier: https://datasheets.maximintegrated.com/en/ds/DG417-DG419.pdf
footprint DIP-8_W7.62mm
part A pins: 1, 2, 6 (in), 8
part B pins: 3 GND (power), 4 V+ (power), 5 NC (in) hidden, 7 V- (power)

## DG419LDY
designator *  value DG419LDY
ki_keywords: CMOS Analog Switch; ki_description: Single SPDT 3V Logic Compatible CMOS Analog Switch, 35Ohm Ron, with Vlogic, SOIC-8; ki_fp_filters: SOIC*3.9x4.9mm*P1.27mm*; Footprint: Package_SO:SOIC-8_3.9x4.9mm_P1.27mm; Supplier: https://datasheets.maximintegrated.com/en/ds/DG417-DG419.pdf
footprint SOIC-8_3.9x4.9mm_P1.27mm
part A pins: 1, 2, 6 (in), 8
part B pins: 3 GND (power), 4 V+ (power), 5 VL (power), 7 V- (power)

## DG419LDY_Maxim
designator *  value DG419LDY_Maxim
ki_keywords: CMOS Analog Switch; ki_description: Single SPDT 3V Logic Compatible CMOS Analog Switch, 35Ohm Ron, Maxim-variant without Vlogic, SOIC-8; ki_fp_filters: SOIC*3.9x4.9mm*P1.27mm*; Footprint: Package_SO:SOIC-8_3.9x4.9mm_P1.27mm; Supplier: https://datasheets.maximintegrated.com/en/ds/DG417-DG419.pdf
footprint SOIC-8_3.9x4.9mm_P1.27mm
part A pins: 1, 2, 6 (in), 8
part B pins: 3 GND (power), 4 V+ (power), 5 NC (in) hidden, 7 V- (power)

## DG419LEUA
designator *  value DG419LEUA
ki_keywords: CMOS Analog Switch; ki_description: Single SPDT 3V Logic Compatible CMOS Analog Switch, 35Ohm Ron, with Vlogic, MSOP-8; ki_fp_filters: MSOP*3x3mm*P0.65mm*; Footprint: Package_SO:MSOP-8_3x3mm_P0.65mm; Supplier: https://datasheets.maximintegrated.com/en/ds/DG417-DG419.pdf
footprint MSOP-8_3x3mm_P0.65mm
part A pins: 1, 2, 6 (in), 8
part B pins: 3 GND (power), 4 V+ (power), 5 VL (power), 7 V- (power)

## DG419LEUA_Maxim
designator *  value DG419LEUA_Maxim
ki_keywords: CMOS Analog Switch; ki_description: Single SPDT 3V Logic Compatible CMOS Analog Switch, 35Ohm Ron, Maxim-variant without Vlogic, MSOP-8; ki_fp_filters: MSOP*3x3mm*P0.65mm*; Footprint: Package_SO:MSOP-8_3x3mm_P0.65mm; Supplier: https://datasheets.maximintegrated.com/en/ds/DG417-DG419.pdf
footprint MSOP-8_3x3mm_P0.65mm
part A pins: 1, 2, 6 (in), 8
part B pins: 3 GND (power), 4 V+ (power), 5 NC (in) hidden, 7 V- (power)

## DG419xJ
designator *  value DG419xJ
ki_keywords: CMOS Analog Switch; ki_description: Single SPDT Monolithic CMOS Analog Switch, 20Ohm Ron, DIP-8; ki_fp_filters: DIP*W7.62mm*; Footprint: Package_DIP:DIP-8_W7.62mm; Supplier: https://datasheets.maximintegrated.com/en/ds/DG417-DG419.pdf
footprint DIP-8_W7.62mm
part A pins: 1, 2, 6 (in), 8
part B pins: 3 GND (power), 4 V+ (power), 5 VL (power), 7 V- (power)

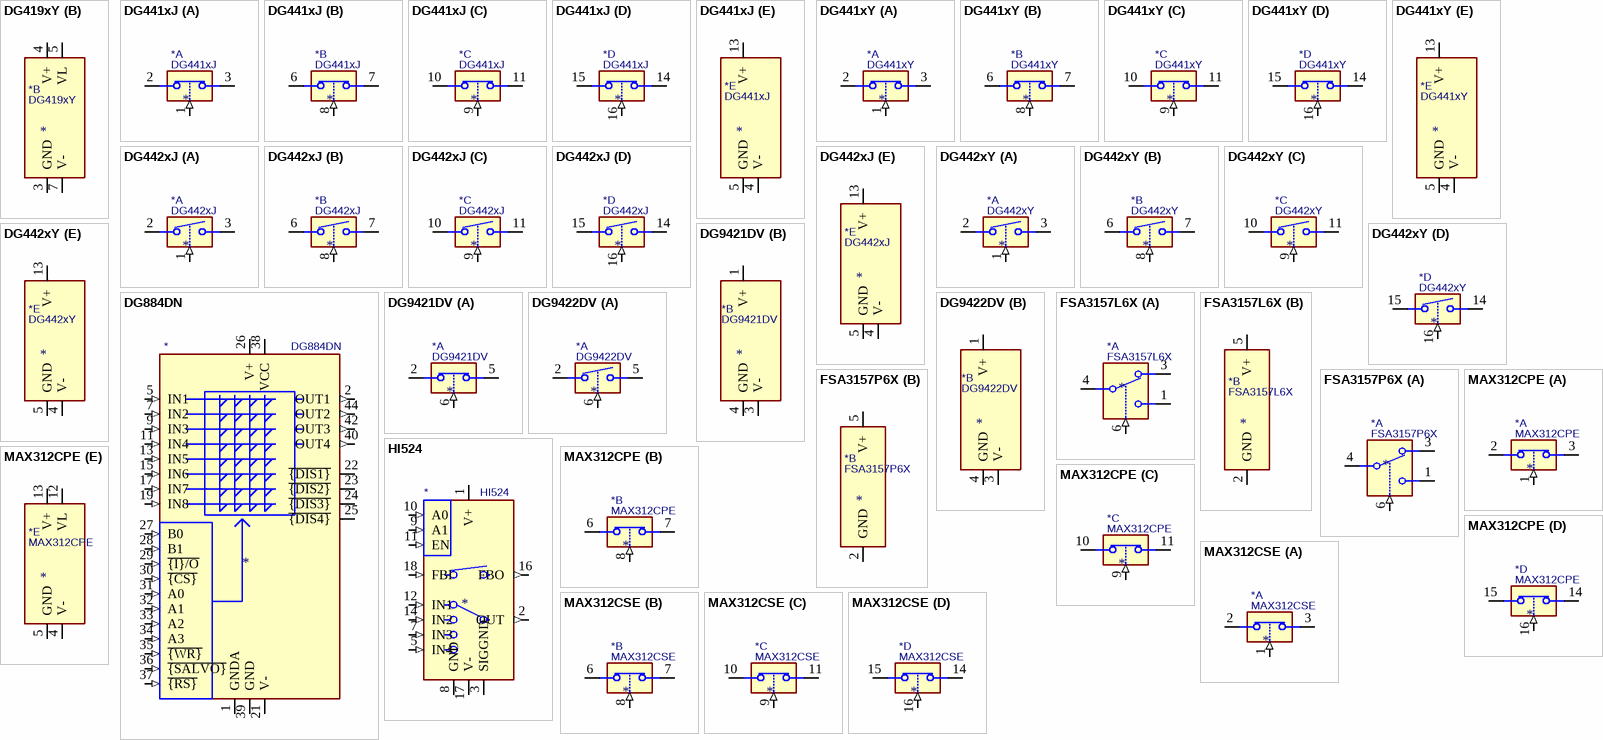
[diagram p4: symbols DG419xY to MAX312CSE]

## DG419xY
designator *  value DG419xY
ki_keywords: CMOS Analog Switch; ki_description: Single SPDT Monolithic CMOS Analog Switch, 20Ohm Ron, SOIC-8; ki_fp_filters: SOIC*3.9x4.9mm*P1.27mm*; Footprint: Package_SO:SOIC-8_3.9x4.9mm_P1.27mm; Supplier: https://datasheets.maximintegrated.com/en/ds/DG417-DG419.pdf
footprint SOIC-8_3.9x4.9mm_P1.27mm
part A pins: 1, 2, 6 (in), 8
part B pins: 3 GND (power), 4 V+ (power), 5 VL (power), 7 V- (power)

## DG441xJ
designator *  value DG441xJ
ki_keywords: CMOS Analog Switch; ki_description: Quad SPST Analog Switches, normally ON, 60Ohm Ron, DIP-16; ki_fp_filters: DIP*W7.62mm*; Footprint: Package_DIP:DIP-16_W7.62mm; Supplier: https://datasheets.maximintegrated.com/en/ds/DG441-DG442.pdf
footprint DIP-16_W7.62mm
part A pins: 1 (in), 2, 3
part B pins: 6, 7, 8 (in)
part C pins: 9 (in), 10, 11
part D pins: 14, 15, 16 (in)
part E pins: 4 V- (power), 5 GND (power), 12 NC (in) hidden, 13 V+ (power)

## DG441xY
designator *  value DG441xY
ki_keywords: CMOS Analog Switch; ki_description: Quad SPST Analog Switches, normally ON, 60Ohm Ron, SOIC-16; ki_fp_filters: SOIC*3.9x9.9mm*P1.27mm*; Footprint: Package_SO:SOIC-16_3.9x9.9mm_P1.27mm; Supplier: https://datasheets.maximintegrated.com/en/ds/DG441-DG442.pdf
footprint SOIC-16_3.9x9.9mm_P1.27mm
part A pins: 1 (in), 2, 3
part B pins: 6, 7, 8 (in)
part C pins: 9 (in), 10, 11
part D pins: 14, 15, 16 (in)
part E pins: 4 V- (power), 5 GND (power), 12 NC (in) hidden, 13 V+ (power)

## DG442xJ
designator *  value DG442xJ
ki_keywords: CMOS Analog Switch; ki_description: Quad SPST Analog Switches, normally OFF, 60Ohm Ron, DIP-16; ki_fp_filters: DIP*W7.62mm*; Footprint: Package_DIP:DIP-16_W7.62mm; Supplier: https://datasheets.maximintegrated.com/en/ds/DG441-DG442.pdf
footprint DIP-16_W7.62mm
part A pins: 1 (in), 2, 3
part B pins: 6, 7, 8 (in)
part C pins: 9 (in), 10, 11
part D pins: 14, 15, 16 (in)
part E pins: 4 V- (power), 5 GND (power), 12 NC (in) hidden, 13 V+ (power)

## DG442xY
designator *  value DG442xY
ki_keywords: CMOS Analog Switch; ki_description: Quad SPST Analog Switches, normally OFF, 60Ohm Ron, SOIC-16; ki_fp_filters: SOIC*3.9x9.9mm*P1.27mm*; Footprint: Package_SO:SOIC-16_3.9x9.9mm_P1.27mm; Supplier: https://datasheets.maximintegrated.com/en/ds/DG441-DG442.pdf
footprint SOIC-16_3.9x9.9mm_P1.27mm
part A pins: 1 (in), 2, 3
part B pins: 6, 7, 8 (in)
part C pins: 9 (in), 10, 11
part D pins: 14, 15, 16 (in)
part E pins: 4 V- (power), 5 GND (power), 12 NC (in) hidden, 13 V+ (power)

## DG884DN
designator *  value DG884DN
ki_keywords: CMOS Analog Switch Video Crosspoint; ki_description: 8 x 4 Wideband Video Crosspoint Array, 45Ohm Ron, PLCC-44; ki_fp_filters: PLCC?44*; Footprint: Package_LCC:PLCC-44; Supplier: http://www.vishay.com/docs/70071/dg884.pdf
footprint PLCC-44
pins: 1 GNDA (power), 2 OUT1 (out), 3 GNDA hidden, 4 GNDA hidden, 5 IN1 (in), 6 GNDA hidden, 7 IN2 (in), 8 GNDA hidden, 9 IN3 (in), 10 GNDA hidden, 11 IN4 (in), 12 GNDA hidden, 13 IN5 (in), 14 GNDA hidden, 15 IN6 (in), 16 GNDA hidden, 17 IN7 (in), 18 GNDA hidden, 19 IN8 (in), 20 GNDA hidden, 21 V-, 22 ~{{DIS1}} (oc), 23 ~{{DIS2}} (oc), 24 ~{{DIS3}} (oc), 25 ~{{DIS4}} (oc), 26 V+, 27 B0 (in), 28 B1 (in), 29 ~{{I}/O} (in), 30 ~{{CS}} (in), 31 A0 (in), 32 A1 (in), 33 A2 (in), 34 A3 (in), 35 ~{{WR}} (in), 36 ~{{SALVO}} (in), 37 ~{{RS}} (in), 38 VCC (power), 39 GND (power), 40 OUT4 (out), 41 GNDA hidden, 42 OUT3 (out), 43 GNDA hidden, 44 OUT2 (out)

## DG9421DV
designator *  value DG9421DV
ki_keywords: CMOS Analog Switch; ki_description: Single SPST Precision Low-Voltage, Low-Glitch CMOS Analog Switch, normally ON, 2Ohm Ron, TSOP-6; ki_fp_filters: TSOP*1.65x3.05mm*P0.95mm*; Footprint: Package_SO:TSOP-6_1.65x3.05mm_P0.95mm; Supplier: https://www.vishay.com/docs/70679/dg9421.pdf
footprint TSOP-6_1.65x3.05mm_P0.95mm
part A pins: 2, 5, 6 (in)
part B pins: 1 V+ (power), 3 V- (power), 4 GND (power)

## DG9422DV
designator *  value DG9422DV
ki_keywords: CMOS Analog Switch; ki_description: Single SPST Precision Low-Voltage, Low-Glitch CMOS Analog Switch, normally OFF, 2Ohm Ron, TSOP-6; ki_fp_filters: TSOP*1.65x3.05mm*P0.95mm*; Footprint: Package_SO:TSOP-6_1.65x3.05mm_P0.95mm; Supplier: https://www.vishay.com/docs/70679/dg9421.pdf
footprint TSOP-6_1.65x3.05mm_P0.95mm
part A pins: 2, 5, 6 (in)
part B pins: 1 V+ (power), 3 V- (power), 4 GND (power)

## FSA3157L6X
designator *  value FSA3157L6X
ki_keywords: CMOS Analog Switch; ki_description: Single SPDT Low-Voltage Analog Switch or 2:1 Multiplexer/De-Multiplexer Bus Switch, 10Ohm Ron, MicroPak-6; ki_fp_filters: Fairchild*MicroPak*1.0x1.45mm*P0.5mm*; Footprint: Package_SON:Fairchild_MicroPak-6_1.0x1.45mm_P0.5mm; Supplier: https://www.onsemi.com/pub/Collateral/NC7SB3157-D.PDF
footprint Fairchild_MicroPak-6_1.0x1.45mm_P0.5mm
part A pins: 1, 3, 4, 6 (in)
part B pins: 2 GND (power), 5 V+ (power)

## FSA3157P6X
designator *  value FSA3157P6X
ki_keywords: CMOS Analog Switch; ki_description: Single SPDT Low-Voltage Analog Switch or 2:1 Multiplexer/De-Multiplexer Bus Switch, 10Ohm Ron, SC-70-6; ki_fp_filters: *SC?70*; Footprint: Package_TO_SOT_SMD:SOT-363_SC-70-6; Supplier: https://www.onsemi.com/pub/Collateral/NC7SB3157-D.PDF
footprint SOT-363_SC-70-6
part A pins: 1, 3, 4, 6 (in)
part B pins: 2 GND (power), 5 V+ (power)

## HI524
designator *  value HI524
ki_keywords: Video Multiplexer analog switch; ki_description: 4-Channel Wideband and Video Multiplexer, DIP-18; ki_fp_filters: DIP*W7.62mm*; Footprint: Package_DIP:DIP-18_W7.62mm; Supplier: https://www.intersil.com/content/dam/Intersil/documents/hi-5/hi-524.pdf
footprint DIP-18_W7.62mm
pins: 1 V+ (power), 2 OUT (out), 3 SIGGND (power), 4 SIGGND hidden, 5 IN4 (in), 6 SIGGND hidden, 7 IN3 (in), 8 GND (power), 9 A1 (in), 10 A0 (in), 11 EN (in), 12 IN1 (in), 13 SIGGND hidden, 14 IN2 (in), 15 SIGGND hidden, 16 FBO (out), 17 V- (power), 18 FBI (in)

## MAX312CPE
designator *  value MAX312CPE
ki_keywords: CMOS Analog Switch; ki_description: Quad SPST CMOS Analog Switches, normally ON, 6.5Ohm Ron, DIP-16; ki_fp_filters: DIP*W7.62mm*; Footprint: Package_DIP:DIP-16_W7.62mm; Supplier: https://datasheets.maximintegrated.com/en/ds/MAX312-MAX314.pdf
footprint DIP-16_W7.62mm
part A pins: 1 (in), 2, 3
part B pins: 6, 7, 8 (in)
part C pins: 9 (in), 10, 11
part D pins: 14, 15, 16 (in)
part E pins: 4 V- (power), 5 GND (power), 12 VL (power), 13 V+ (power)

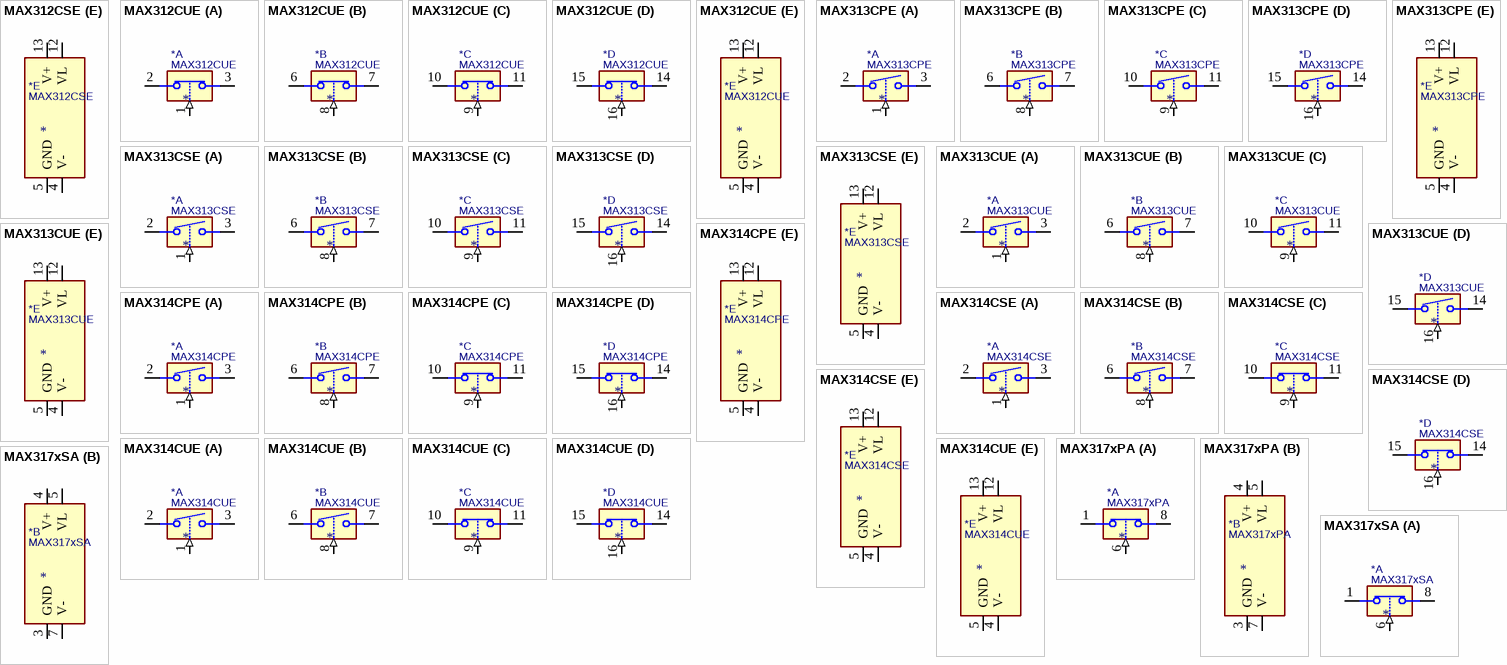
[diagram p5: symbols MAX312CSE to MAX317xSA]

## MAX312CSE
designator *  value MAX312CSE
ki_keywords: CMOS Analog Switch; ki_description: Quad SPST CMOS Analog Switches, normally ON, 6.5Ohm Ron, SOIC-16; ki_fp_filters: SOIC*3.9x9.9mm*P1.27mm*; Footprint: Package_SO:SOIC-16_3.9x9.9mm_P1.27mm; Supplier: https://datasheets.maximintegrated.com/en/ds/MAX312-MAX314.pdf
footprint SOIC-16_3.9x9.9mm_P1.27mm
part A pins: 1 (in), 2, 3
part B pins: 6, 7, 8 (in)
part C pins: 9 (in), 10, 11
part D pins: 14, 15, 16 (in)
part E pins: 4 V- (power), 5 GND (power), 12 VL (power), 13 V+ (power)

## MAX312CUE
designator *  value MAX312CUE
ki_keywords: CMOS Analog Switch; ki_description: Quad SPST CMOS Analog Switches, normally ON, 6.5Ohm Ron, TSSOP-16; ki_fp_filters: TSSOP*4.4x5mm*P0.65mm*; Footprint: Package_SO:TSSOP-16_4.4x5mm_P0.65mm; Supplier: https://datasheets.maximintegrated.com/en/ds/MAX312-MAX314.pdf
footprint TSSOP-16_4.4x5mm_P0.65mm
part A pins: 1 (in), 2, 3
part B pins: 6, 7, 8 (in)
part C pins: 9 (in), 10, 11
part D pins: 14, 15, 16 (in)
part E pins: 4 V- (power), 5 GND (power), 12 VL (power), 13 V+ (power)

## MAX313CPE
designator *  value MAX313CPE
ki_keywords: CMOS Analog Switch; ki_description: Quad SPST CMOS Analog Switches, normally OFF, 6.5Ohm Ron, DIP-16; ki_fp_filters: DIP*W7.62mm*; Footprint: Package_DIP:DIP-16_W7.62mm; Supplier: https://datasheets.maximintegrated.com/en/ds/MAX312-MAX314.pdf
footprint DIP-16_W7.62mm
part A pins: 1 (in), 2, 3
part B pins: 6, 7, 8 (in)
part C pins: 9 (in), 10, 11
part D pins: 14, 15, 16 (in)
part E pins: 4 V- (power), 5 GND (power), 12 VL (power), 13 V+ (power)

## MAX313CSE
designator *  value MAX313CSE
ki_keywords: CMOS Analog Switch; ki_description: Quad SPST CMOS Analog Switches, normally OFF, 6.5Ohm Ron, SOIC-16; ki_fp_filters: SOIC*3.9x9.9mm*P1.27mm*; Footprint: Package_SO:SOIC-16_3.9x9.9mm_P1.27mm; Supplier: https://datasheets.maximintegrated.com/en/ds/MAX312-MAX314.pdf
footprint SOIC-16_3.9x9.9mm_P1.27mm
part A pins: 1 (in), 2, 3
part B pins: 6, 7, 8 (in)
part C pins: 9 (in), 10, 11
part D pins: 14, 15, 16 (in)
part E pins: 4 V- (power), 5 GND (power), 12 VL (power), 13 V+ (power)

## MAX313CUE
designator *  value MAX313CUE
ki_keywords: CMOS Analog Switch; ki_description: Quad SPST CMOS Analog Switches, normally OFF, 6.5Ohm Ron, TSSOP-16; ki_fp_filters: TSSOP*4.4x5mm*P0.65mm*; Footprint: Package_SO:TSSOP-16_4.4x5mm_P0.65mm; Supplier: https://datasheets.maximintegrated.com/en/ds/MAX312-MAX314.pdf
footprint TSSOP-16_4.4x5mm_P0.65mm
part A pins: 1 (in), 2, 3
part B pins: 6, 7, 8 (in)
part C pins: 9 (in), 10, 11
part D pins: 14, 15, 16 (in)
part E pins: 4 V- (power), 5 GND (power), 12 VL (power), 13 V+ (power)

## MAX314CPE
designator *  value MAX314CPE
ki_keywords: CMOS Analog Switch; ki_description: Quad SPST CMOS Analog Switches, normally 2xON + 2xOFF, 6.5Ohm Ron, DIP-16; ki_fp_filters: DIP*W7.62mm*; Footprint: Package_DIP:DIP-16_W7.62mm; Supplier: https://datasheets.maximintegrated.com/en/ds/MAX312-MAX314.pdf
footprint DIP-16_W7.62mm
part A pins: 1 (in), 2, 3
part B pins: 6, 7, 8 (in)
part C pins: 9 (in), 10, 11
part D pins: 14, 15, 16 (in)
part E pins: 4 V- (power), 5 GND (power), 12 VL (power), 13 V+ (power)

## MAX314CSE
designator *  value MAX314CSE
ki_keywords: CMOS Analog Switch; ki_description: Quad SPST CMOS Analog Switches, normally 2xON + 2xOFF, 6.5Ohm Ron, SOIC-16; ki_fp_filters: SOIC*3.9x9.9mm*P1.27mm*; Footprint: Package_SO:SOIC-16_3.9x9.9mm_P1.27mm; Supplier: https://datasheets.maximintegrated.com/en/ds/MAX312-MAX314.pdf
footprint SOIC-16_3.9x9.9mm_P1.27mm
part A pins: 1 (in), 2, 3
part B pins: 6, 7, 8 (in)
part C pins: 9 (in), 10, 11
part D pins: 14, 15, 16 (in)
part E pins: 4 V- (power), 5 GND (power), 12 VL (power), 13 V+ (power)

## MAX314CUE
designator *  value MAX314CUE
ki_keywords: CMOS Analog Switch; ki_description: Quad SPST CMOS Analog Switches, normally 2xON + 2xOFF, 6.5Ohm Ron, TSSOP-16; ki_fp_filters: TSSOP*4.4x5mm*P0.65mm*; Footprint: Package_SO:TSSOP-16_4.4x5mm_P0.65mm; Supplier: https://datasheets.maximintegrated.com/en/ds/MAX312-MAX314.pdf
footprint TSSOP-16_4.4x5mm_P0.65mm
part A pins: 1 (in), 2, 3
part B pins: 6, 7, 8 (in)
part C pins: 9 (in), 10, 11
part D pins: 14, 15, 16 (in)
part E pins: 4 V- (power), 5 GND (power), 12 VL (power), 13 V+ (power)

## MAX317xPA
designator *  value MAX317xPA
ki_keywords: CMOS Analog Switch; ki_description: Single SPST Monolithic CMOS Analog Switch, normally ON, 20Ohm Ron, DIP-8; ki_fp_filters: DIP*W7.62mm*; Footprint: Package_DIP:DIP-8_W7.62mm; Supplier: https://datasheets.maximintegrated.com/en/ds/MAX317-MAX319.pdf
footprint DIP-8_W7.62mm
part A pins: 1, 6 (in), 8
part B pins: 2 NC (in) hidden, 3 GND (power), 4 V+ (power), 5 VL (power), 7 V- (power)

## MAX317xSA
designator *  value MAX317xSA
ki_keywords: CMOS Analog Switch; ki_description: Single SPST Monolithic CMOS Analog Switch, normally ON, 20Ohm Ron, SOIC-8; ki_fp_filters: SOIC*3.9x4.9mm*P1.27mm*; Footprint: Package_SO:SOIC-8_3.9x4.9mm_P1.27mm; Supplier: https://datasheets.maximintegrated.com/en/ds/MAX317-MAX319.pdf
footprint SOIC-8_3.9x4.9mm_P1.27mm
part A pins: 1, 6 (in), 8
part B pins: 2 NC (in) hidden, 3 GND (power), 4 V+ (power), 5 VL (power), 7 V- (power)

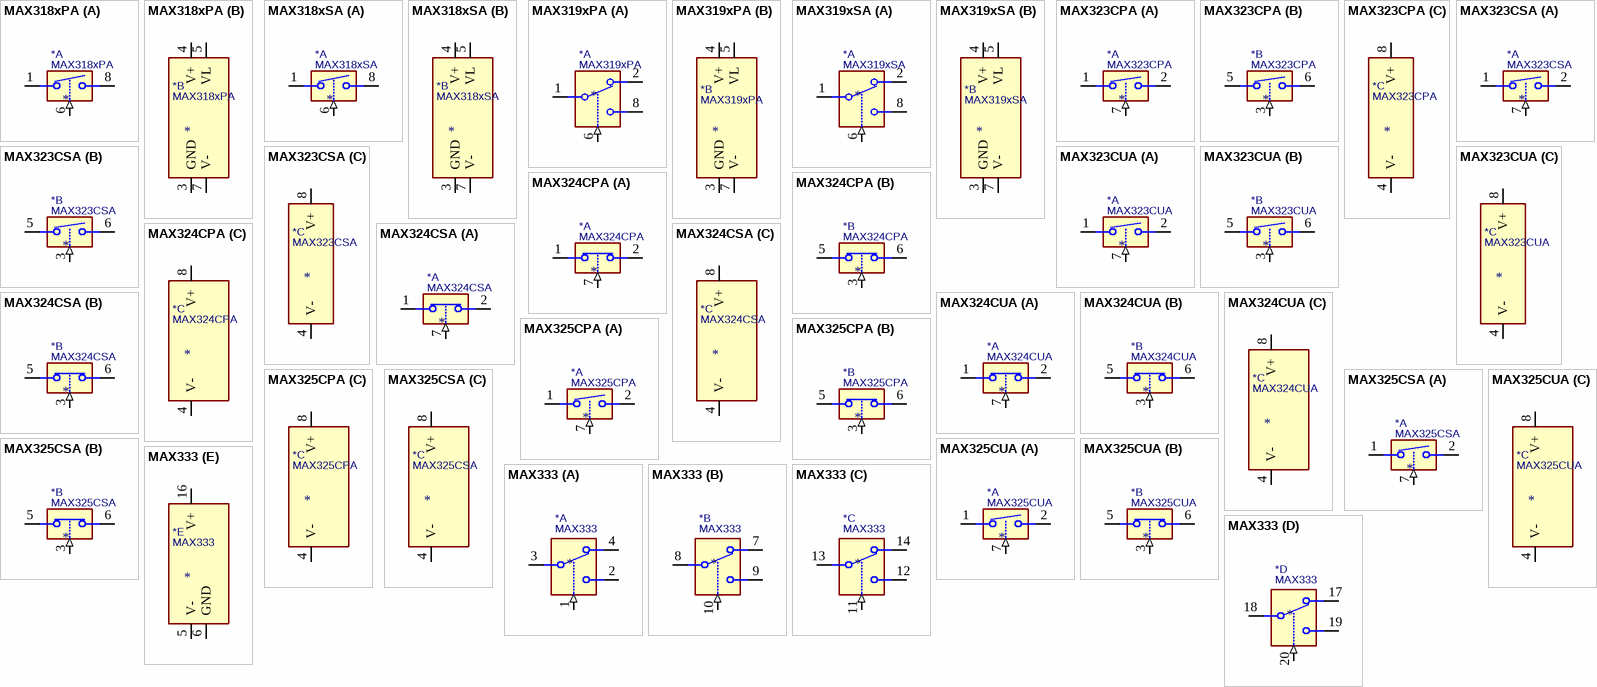
[diagram p6: symbols MAX318xPA to MAX333]

## MAX318xPA
designator *  value MAX318xPA
ki_keywords: CMOS Analog Switch; ki_description: Single SPST Monolithic CMOS Analog Switch, normally OFF, 20Ohm Ron, DIP-8; ki_fp_filters: DIP*W7.62mm*; Footprint: Package_DIP:DIP-8_W7.62mm; Supplier: https://datasheets.maximintegrated.com/en/ds/MAX317-MAX319.pdf
footprint DIP-8_W7.62mm
part A pins: 1, 6 (in), 8
part B pins: 2 NC (in) hidden, 3 GND (power), 4 V+ (power), 5 VL (power), 7 V- (power)

## MAX318xSA
designator *  value MAX318xSA
ki_keywords: CMOS Analog Switch; ki_description: Single SPST Monolithic CMOS Analog Switch, normally OFF, 20Ohm Ron, SOIC-8; ki_fp_filters: SOIC*3.9x4.9mm*P1.27mm*; Footprint: Package_SO:SOIC-8_3.9x4.9mm_P1.27mm; Supplier: https://datasheets.maximintegrated.com/en/ds/MAX317-MAX319.pdf
footprint SOIC-8_3.9x4.9mm_P1.27mm
part A pins: 1, 6 (in), 8
part B pins: 2 NC (in) hidden, 3 GND (power), 4 V+ (power), 5 VL (power), 7 V- (power)

## MAX319xPA
designator *  value MAX319xPA
ki_keywords: CMOS Analog Switch; ki_description: Single SPDT Monolithic CMOS Analog Switch, 20Ohm Ron, DIP-8; ki_fp_filters: DIP*W7.62mm*; Footprint: Package_DIP:DIP-8_W7.62mm; Supplier: https://datasheets.maximintegrated.com/en/ds/MAX317-MAX319.pdf
footprint DIP-8_W7.62mm
part A pins: 1, 2, 6 (in), 8
part B pins: 3 GND (power), 4 V+ (power), 5 VL (power), 7 V- (power)

## MAX319xSA
designator *  value MAX319xSA
ki_keywords: CMOS Analog Switch; ki_description: Single SPDT Monolithic CMOS Analog Switch, 20Ohm Ron, SOIC-8; ki_fp_filters: SOIC*3.9x4.9mm*P1.27mm*; Footprint: Package_SO:SOIC-8_3.9x4.9mm_P1.27mm; Supplier: https://datasheets.maximintegrated.com/en/ds/MAX317-MAX319.pdf
footprint SOIC-8_3.9x4.9mm_P1.27mm
part A pins: 1, 2, 6 (in), 8
part B pins: 3 GND (power), 4 V+ (power), 5 VL (power), 7 V- (power)

## MAX323CPA
designator *  value MAX323CPA
ki_keywords: CMOS Analog Switch; ki_description: Dual SPST CMOS Analog Switches, normally OFF, 60Ohm Ron, DIP-8; ki_fp_filters: DIP*W7.62mm*; Footprint: Package_DIP:DIP-8_W7.62mm; Supplier: https://datasheets.maximintegrated.com/en/ds/MAX323-MAX325.pdf
footprint DIP-8_W7.62mm
part A pins: 1, 2, 7 (in)
part B pins: 3 (in), 5, 6
part C pins: 4 V- (power), 8 V+ (power)

## MAX323CSA
designator *  value MAX323CSA
ki_keywords: CMOS Analog Switch; ki_description: Dual SPST CMOS Analog Switches, normally OFF, 60Ohm Ron, SOIC-8; ki_fp_filters: SOIC*3.9x4.9mm*P1.27mm*; Footprint: Package_SO:SOIC-8_3.9x4.9mm_P1.27mm; Supplier: https://datasheets.maximintegrated.com/en/ds/MAX323-MAX325.pdf
footprint SOIC-8_3.9x4.9mm_P1.27mm
part A pins: 1, 2, 7 (in)
part B pins: 3 (in), 5, 6
part C pins: 4 V- (power), 8 V+ (power)

## MAX323CUA
designator *  value MAX323CUA
ki_keywords: CMOS Analog Switch; ki_description: Dual SPST CMOS Analog Switches, normally OFF, 60Ohm Ron, MSOP-8; ki_fp_filters: MSOP*3x3mm*P0.65mm*; Footprint: Package_SO:MSOP-8_3x3mm_P0.65mm; Supplier: https://datasheets.maximintegrated.com/en/ds/MAX323-MAX325.pdf
footprint MSOP-8_3x3mm_P0.65mm
part A pins: 1, 2, 7 (in)
part B pins: 3 (in), 5, 6
part C pins: 4 V- (power), 8 V+ (power)

## MAX324CPA
designator *  value MAX324CPA
ki_keywords: CMOS Analog Switch; ki_description: Dual SPST CMOS Analog Switches, normally ON, 60Ohm Ron, DIP-8; ki_fp_filters: DIP*W7.62mm*; Footprint: Package_DIP:DIP-8_W7.62mm; Supplier: https://datasheets.maximintegrated.com/en/ds/MAX323-MAX325.pdf
footprint DIP-8_W7.62mm
part A pins: 1, 2, 7 (in)
part B pins: 3 (in), 5, 6
part C pins: 4 V- (power), 8 V+ (power)

## MAX324CSA
designator *  value MAX324CSA
ki_keywords: CMOS Analog Switch; ki_description: Dual SPST CMOS Analog Switches, normally ON, 60Ohm Ron, SOIC-8; ki_fp_filters: SOIC*3.9x4.9mm*P1.27mm*; Footprint: Package_SO:SOIC-8_3.9x4.9mm_P1.27mm; Supplier: https://datasheets.maximintegrated.com/en/ds/MAX323-MAX325.pdf
footprint SOIC-8_3.9x4.9mm_P1.27mm
part A pins: 1, 2, 7 (in)
part B pins: 3 (in), 5, 6
part C pins: 4 V- (power), 8 V+ (power)

## MAX324CUA
designator *  value MAX324CUA
ki_keywords: CMOS Analog Switch; ki_description: Dual SPST CMOS Analog Switches, normally ON, 60Ohm Ron, MSOP-8; ki_fp_filters: MSOP*3x3mm*P0.65mm*; Footprint: Package_SO:MSOP-8_3x3mm_P0.65mm; Supplier: https://datasheets.maximintegrated.com/en/ds/MAX323-MAX325.pdf
footprint MSOP-8_3x3mm_P0.65mm
part A pins: 1, 2, 7 (in)
part B pins: 3 (in), 5, 6
part C pins: 4 V- (power), 8 V+ (power)

## MAX325CPA
designator *  value MAX325CPA
ki_keywords: CMOS Analog Switch; ki_description: Dual SPST CMOS Analog Switches, normally 1xOFF and 1xON, 60Ohm Ron, DIP-8; ki_fp_filters: DIP*W7.62mm*; Footprint: Package_DIP:DIP-8_W7.62mm; Supplier: https://datasheets.maximintegrated.com/en/ds/MAX323-MAX325.pdf
footprint DIP-8_W7.62mm
part A pins: 1, 2, 7 (in)
part B pins: 3 (in), 5, 6
part C pins: 4 V- (power), 8 V+ (power)

## MAX325CSA
designator *  value MAX325CSA
ki_keywords: CMOS Analog Switch; ki_description: Dual SPST CMOS Analog Switches, normally 1xOFF and 1xON, 60Ohm Ron, SOIC-8; ki_fp_filters: SOIC*3.9x4.9mm*P1.27mm*; Footprint: Package_SO:SOIC-8_3.9x4.9mm_P1.27mm; Supplier: https://datasheets.maximintegrated.com/en/ds/MAX323-MAX325.pdf
footprint SOIC-8_3.9x4.9mm_P1.27mm
part A pins: 1, 2, 7 (in)
part B pins: 3 (in), 5, 6
part C pins: 4 V- (power), 8 V+ (power)

## MAX325CUA
designator *  value MAX325CUA
ki_keywords: CMOS Analog Switch; ki_description: Dual SPST CMOS Analog Switches, normally 1xOFF and 1xON, 60Ohm Ron, MSOP-8; ki_fp_filters: MSOP*3x3mm*P0.65mm*; Footprint: Package_SO:MSOP-8_3x3mm_P0.65mm; Supplier: https://datasheets.maximintegrated.com/en/ds/MAX323-MAX325.pdf
footprint MSOP-8_3x3mm_P0.65mm
part A pins: 1, 2, 7 (in)
part B pins: 3 (in), 5, 6
part C pins: 4 V- (power), 8 V+ (power)

## MAX333
designator *  value MAX333
ki_keywords: CMOS Analog Switch; ki_description: Quad SPDT CMOS Analog Switch, DIP-20/SOIC-20/SSOP-20; ki_fp_filters: SSOP*5.3x7.2mm*P0.65mm* SOIC*7.5x10.3mm*P1.27mm* DIP*W7.62mm*; Supplier: https://datasheets.maximintegrated.com/en/ds/MAX333.pdf
part A pins: 1 (in), 2, 3, 4
part B pins: 7, 8, 9, 10 (in)
part C pins: 11 (in), 12, 13, 14
part D pins: 17, 18, 19, 20 (in)
part E pins: 5 V- (power), 6 GND (power), 15 NC (in) hidden, 16 V+ (power)

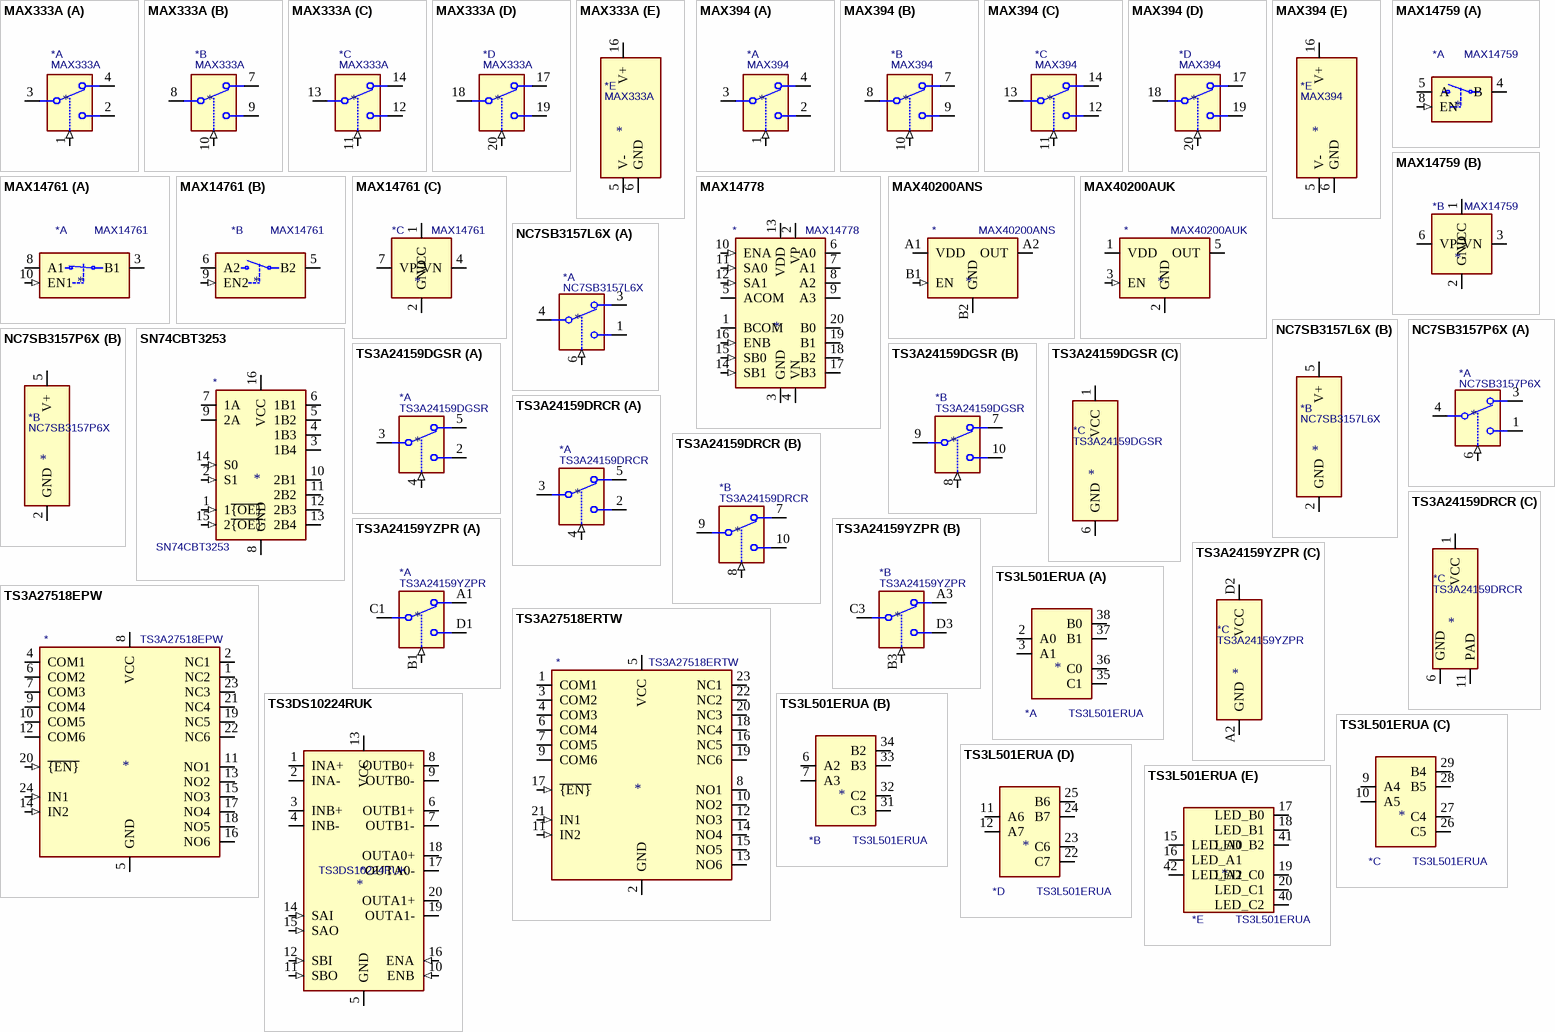
[diagram p7: symbols MAX333A to TS3L501ERUA]

## MAX333A
designator *  value MAX333A
ki_keywords: CMOS Analog Switch; ki_description: Quad SPDT CMOS Analog Switch, 17Ohm Ron, DIP-20/SOIC-20/SSOP-20/TSSOP-20; ki_fp_filters: TSSOP*4.4x6.5mm*P0.65mm* SSOP*5.3x7.2mm*P0.65mm* SOIC*7.5x10.3mm*P1.27mm* DIP*W7.62mm* SOIC*7.5x12.8mm*P1.27mm*; Supplier: https://datasheets.maximintegrated.com/en/ds/MAX333A.pdf
part A pins: 1 (in), 2, 3, 4
part B pins: 7, 8, 9, 10 (in)
part C pins: 11 (in), 12, 13, 14
part D pins: 17, 18, 19, 20 (in)
part E pins: 5 V- (power), 6 GND (power), 15 NC (in) hidden, 16 V+ (power)

## MAX394
designator *  value MAX394
ki_keywords: CMOS Analog Switch; ki_description: Quad SPDT CMOS Analog Switch, 35Ohm Ron, DIP-20/SOIC-20/SSOP-20/TSSOP-20; ki_fp_filters: TSSOP*4.4x6.5mm*P0.65mm* SSOP*5.3x7.2mm*P0.65mm* SOIC*7.5x10.3mm*P1.27mm* DIP*W7.62mm* SOIC*7.5x12.8mm*P1.27mm*; Supplier: https://datasheets.maximintegrated.com/en/ds/MAX394.pdf
part A pins: 1 (in), 2, 3, 4
part B pins: 7, 8, 9, 10 (in)
part C pins: 11 (in), 12, 13, 14
part D pins: 17, 18, 19, 20 (in)
part E pins: 5 V- (power), 6 GND (power), 15 NC (in) hidden, 16 V+ (power)